# Altium schematic symbol library hello.SchLib: 90 symbols
Pins are listed as number, name and electrical type; pins without a type are passive.

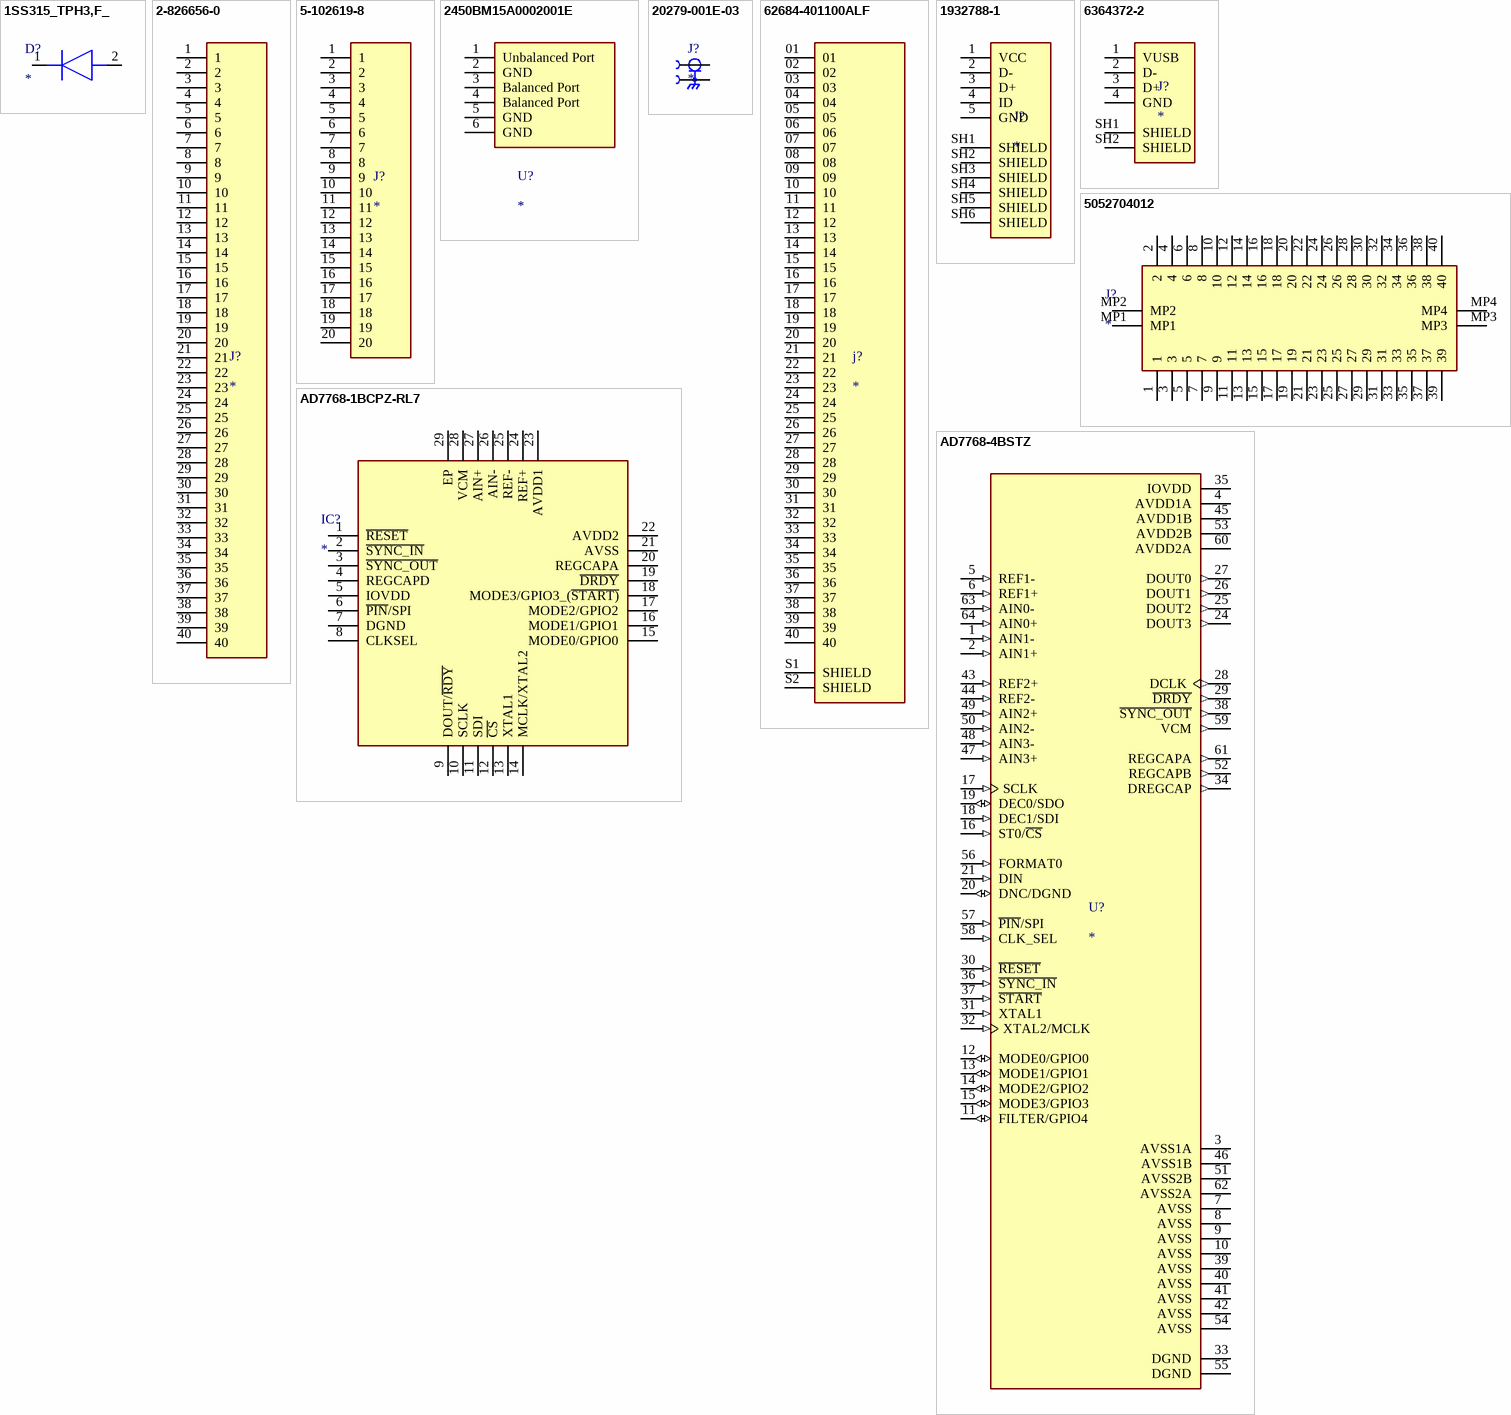
[diagram p0: symbols 1SS315_TPH3,F_ to AD7768-4BSTZ]

## 1SS315_TPH3,F_
designator D?
Diode; Manufacturer_Name: Toshiba; Manufacturer_Part_Number: 1SS315(TPH3,F); Height: 1.1mm; Mouser Part Number: N/A; Mouser Price/Stock: https://www.mouser.co.uk/ProductDetail/Toshiba/1SS315TPH3F?qs=8TQFHmocP6xxNvZUFM2DpA%3D%3D
footprint SOD2513X110N
pins: 1 K, 2 A

## 2-826656-0
designator J?
40 pin
footprint TE_2-826656-0
pins: 1, 2, 3, 4, 5, 6, 7, 8, 9, 10, 11, 12, 13, 14, 15, 16, 17, 18, 19, 20, 21, 22, 23, 24, 25, 26, 27, 28, 29, 30, 31, 32, 33, 34, 35, 36, 37, 38, 39, 40

## 5-102619-8
designator J?
JTAG. Conn Shrouded Header HDR 20 POS 2.54mm Solder ST Thru-Hole Tray
footprint TE_5-102619-8 (Footprint not found)
pins: 1, 2, 3, 4, 5, 6, 7, 8, 9, 10, 11, 12, 13, 14, 15, 16, 17, 18, 19, 20

## 2450BM15A0002001E
designator U?
bộ lọc thông dải. 2.4GHz
footprint 2450BM15A0002001E (Footprint not found)
pins: 1 Unbalanced Port, 2 GND, 3 Balanced Port, 4 Balanced Port, 5 GND, 6 GND

## 20279-001E-03
designator J?
1 POS Vertical SMD Small form factor with big performance through 6 GHz connector,MHF, RF, micro-coaxial MHF I Receptacle
footprint IPEX_20279-001E-03
pins: 1 SIGNAL, 2 GROUND, 3 GROUND

## 62684-401100ALF
designator j?
FFC. 40 pin
footprint AMPHENOL_62684-401100ALF
pins: 01, 02, 03, 04, 05, 06, 07, 08, 09, 10, 11, 12, 13, 14, 15, 16, 17, 18, 19, 20, 21, 22, 23, 24, 25, 26, 27, 28, 29, 30, 31, 32, 33, 34, 35, 36, 37, 38, 39, 40, S1 SHIELD, S2 SHIELD

## 1932788-1
designator J?
micro usb type B
footprint TE_1932788-1
pins: 1 VCC (power), 2 D-, 3 D+, 4 ID, 5 GND (power), SH1 SHIELD, SH2 SHIELD, SH3 SHIELD, SH4 SHIELD, SH5 SHIELD, SH6 SHIELD

## 6364372-2
designator J?
usb type A
footprint TE_6364372-2
pins: 1 VUSB, 2 D-, 3 D+, 4 GND, SH1 SHIELD, SH2 SHIELD

## 5052704012
designator J?
Connector; Manufacturer_Name: Molex; Manufacturer_Part_Number: 5052704012; Datasheet Link: https://tools.molex.com/pdm_docs/sd/5052704012_sd.pdf; Height: 0.78mm
footprint 5052704012
pins: 1, 2, 3, 4, 5, 6, 7, 8, 9, 10, 11, 12, 13, 14, 15, 16, 17, 18, 19, 20, 21, 22, 23, 24, 25, 26, 27, 28, 29, 30, 31, 32, 33, 34, 35, 36, 37, 38, 39, 40, MP1, MP2, MP3, MP4

## AD7768-1BCPZ-RL7
designator IC?
Integrated Circuit; Manufacturer_Name: Analog Devices; Manufacturer_Part_Number: AD7768-1BCPZ-RL7; Datasheet Link: https://www.arrow.com/en/products/ad7768-1bcpz-rl7/analog-devices; Height: 0.8mm; Mouser Part Number: 584-AD7768-1BCPZ-RL7; Mouser Price/Stock: https://www.mouser.co.uk/ProductDetail/Analog-Devices/AD7768-1BCPZ-RL7?qs=MLItCLRbWszUL30HMHEoKA%3D%3D; Arrow Part Number: AD7768-1BCPZ-RL7; Arrow Price/Stock: https://www.arrow.com/en/products/ad7768-1bcpz-rl7/analog-devices?utm_currency=USD&region=nac
footprint QFN50P400X500X80-29N-D
pins: 1 ~{RESET}, 2 ~{SYNC_IN}, 3 ~{SYNC_OUT}, 4 REGCAPD, 5 IOVDD, 6 ~{PIN}/SPI, 7 DGND, 8 CLKSEL, 9 DOUT/~{RDY}, 10 SCLK, 11 SDI, 12 ~{CS}, 13 XTAL1, 14 MCLK/XTAL2, 15 MODE0/GPIO0, 16 MODE1/GPIO1, 17 MODE2/GPIO2, 18 MODE3/GPIO3_(~{START)}, 19 ~{DRDY}, 20 REGCAPA, 21 AVSS, 22 AVDD2, 23 AVDD1, 24 REF+, 25 REF-, 26 AIN-, 27 AIN+, 28 VCM, 29 EP

## AD7768-4BSTZ
designator U?
4-Channel, 24-Bit, Simultaneous Sampling ADC, Power Scaling, 110.8 kHz BW
footprint QFP50P1200X1200X160-64N
pins: 1 AIN1- (in), 2 AIN1+ (in), 3 AVSS1A (power), 4 AVDD1A (power), 5 REF1- (in), 6 REF1+ (in), 7 AVSS (power), 8 AVSS (power), 9 AVSS (power), 10 AVSS (power), 11 FILTER/GPIO4 (io), 12 MODE0/GPIO0 (io), 13 MODE1/GPIO1 (io), 14 MODE2/GPIO2 (io), 15 MODE3/GPIO3 (io), 16 ST0/~{CS} (in), 17 SCLK (in), 18 DEC1/SDI (in), 19 DEC0/SDO (io), 20 DNC/DGND (io), 21 DIN (in), 24 DOUT3 (out), 25 DOUT2 (out), 26 DOUT1 (out), 27 DOUT0 (out), 28 DCLK (out), 29 ~{DRDY} (out), 30 ~{RESET} (in), 31 XTAL1 (in), 32 XTAL2/MCLK (in), 33 DGND (power), 34 DREGCAP (out), 35 IOVDD (power), 36 ~{SYNC_IN} (in), 37 ~{START} (in), 38 ~{SYNC_OUT} (out), 39 AVSS (power), 40 AVSS (power), 41 AVSS (power), 42 AVSS (power), 43 REF2+ (in), 44 REF2- (in), 45 AVDD1B (power), 46 AVSS1B (power), 47 AIN3+ (in), 48 AIN3- (in), 49 AIN2+ (in), 50 AIN2- (in), 51 AVSS2B (power), 52 REGCAPB (out), 53 AVDD2B (power), 54 AVSS (power), 55 DGND (power), 56 FORMAT0 (in), 57 ~{PIN}/SPI (in), 58 CLK_SEL (in), 59 VCM (out), 60 AVDD2A (power), 61 REGCAPA (out), 62 AVSS2A (power), 63 AIN0- (in), 64 AIN0+ (in)

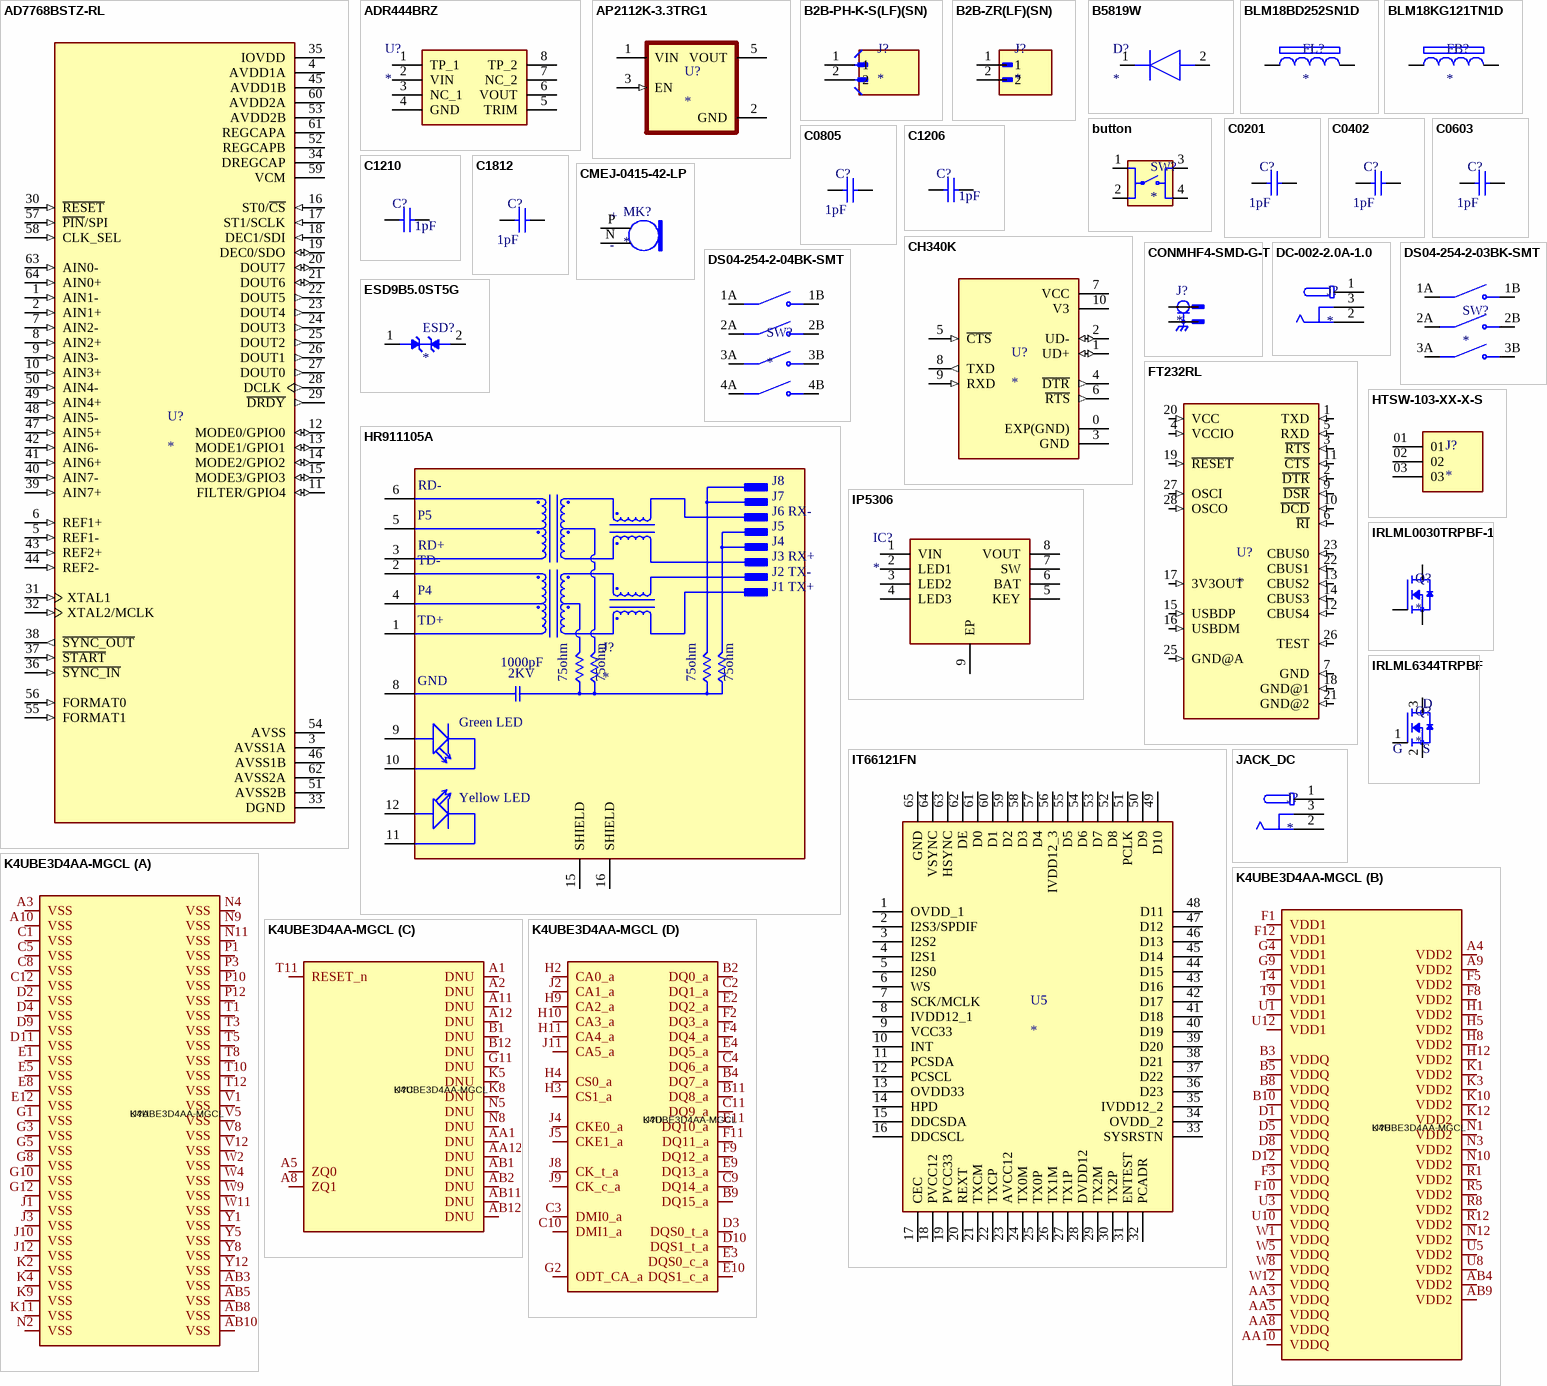
[diagram p1: symbols AD7768BSTZ-RL to K4UBE3D4AA-MGCL]

## AD7768BSTZ-RL
designator U?
ADC 24 bit. 8 kênh. SPI
footprint QFP50P1200X1200X160-64N (Footprint not found)
pins: 1 AIN1- (in), 2 AIN1+ (in), 3 AVSS1A (power), 4 AVDD1A (power), 5 REF1- (in), 6 REF1+ (in), 7 AIN2- (in), 8 AIN2+ (in), 9 AIN3- (in), 10 AIN3+ (in), 11 FILTER/GPIO4 (io), 12 MODE0/GPIO0 (io), 13 MODE1/GPIO1 (io), 14 MODE2/GPIO2 (io), 15 MODE3/GPIO3 (io), 16 ST0/~{CS} (in), 17 ST1/SCLK (in), 18 DEC1/SDI (in), 19 DEC0/SDO (io), 20 DOUT7 (io), 21 DOUT6 (io), 22 DOUT5 (out), 23 DOUT4 (out), 24 DOUT3 (out), 25 DOUT2 (out), 26 DOUT1 (out), 27 DOUT0 (out), 28 DCLK (out), 29 ~{DRDY} (out), 30 ~{RESET} (in), 31 XTAL1 (in), 32 XTAL2/MCLK (in), 33 DGND (power), 34 DREGCAP (power), 35 IOVDD (power), 36 ~{SYNC_IN} (in), 37 ~{START} (in), 38 ~{SYNC_OUT} (out), 39 AIN7+ (in), 40 AIN7- (in), 41 AIN6+ (in), 42 AIN6- (in), 43 REF2+ (in), 44 REF2- (in), 45 AVDD1B (power), 46 AVSS1B (power), 47 AIN5+ (in), 48 AIN5- (in), 49 AIN4+ (in), 50 AIN4- (in), 51 AVSS2B (power), 52 REGCAPB (power), 53 AVDD2B (power), 54 AVSS (power), 55 FORMAT1 (in), 56 FORMAT0 (in), 57 ~{PIN}/SPI (in), 58 CLK_SEL (in), 59 VCM (power), 60 AVDD2A (power), 61 REGCAPA (power), 62 AVSS2A (power), 63 AIN0- (in), 64 AIN0+ (in)

## ADR444BRZ
designator U?
Integrated Circuit; Manufacturer_Name: Analog Devices; Manufacturer_Part_Number: ADR444BRZ; Datasheet Link: https://datasheet.datasheetarchive.com/originals/distributors/SFDatasheet-4/sf-00085539.pdf; Height: 1.75mm; Mouser Part Number: 584-ADR444BRZ; Mouser Price/Stock: https://www.mouser.co.uk/ProductDetail/Analog-Devices/ADR444BRZ?qs=WIvQP4zGaniGi1GotCNCxA%3D%3D; Arrow Part Number: ADR444BRZ; Arrow Price/Stock: https://www.arrow.com/en/products/adr444brz/analog-devices?region=europe
footprint SOIC127P600X175-8N
pins: 1 TP_1, 2 VIN, 3 NC_1, 4 GND, 5 TRIM, 6 VOUT, 7 NC_2, 8 TP_2

## AP2112K-3.3TRG1
designator U?
Linear Voltage Regulator IC Positive Fixed 1 Output 600mA SOT-25
footprint SOT95P285X140-5N (Footprint not found)
pins: 1 VIN (power), 2 GND (power), 3 EN (in), 5 VOUT (power)

## B2B-PH-K-S(LF)(SN)
designator J?
Connector. 2p 2.00mm
footprint JST_B2B-PH-K-S(LF)(SN) (Footprint not found)
pins: 1, 2

## B2B-ZR(LF)(SN)
designator J?
Connector. 2p 1.50mm
footprint JST_B2B-ZR(LF)(SN) (Footprint not found)
pins: 1, 2

## B5819W
designator D?
Diode; Manufacturer_Name: Changjiang Electronics Tech (CJ); Manufacturer_Part_Number: B5819W; Datasheet Link: https://datasheet.lcsc.com/szlcsc/Changjiang-Electronics-Tech-CJ-B5819W_C8598.pdf; Height: 1.25mm
footprint SOD3716X125N
pins: 1 K, 2 A

## BLM18BD252SN1D
designator FL?
Inductor Chip Bead 2.5KOhm 25% 100MHz Ferrite 50mA 0603
footprint BEADC1608X95N (Footprint not found)
pins: 1, 2

## BLM18KG121TN1D
designator FB?
Ferrite Bead. 0603. 3A.  DC Resistance(DCR) 30mΩ. 120Ω@100MHz; Manufacturer_Name: Murata Electronics; Manufacturer_Part_Number: BLM18KG121TN1D; Datasheet Link: http://www.murata.com/~/media/webrenewal/support/library/catalog/products/emc/emifil/c31e.ashx?la=en-gb; Height: 0.75mm; Mouser Part Number: 81-BLM18KG121TN1D; Mouser Price/Stock: https://www.mouser.co.uk/ProductDetail/Murata-Electronics/BLM18KG121TN1D?qs=rvfpa0%252BU10PYAwVv0fw24Q%3D%3D; Arrow Part Number: BLM18KG121TN1D; Arrow Price/Stock: https://www.arrow.com/en/products/blm18kg121tn1d/murata-manufacturing?utm_currency=USD&region=nac
footprint BLM18EG101TH1D
pins: 1, 2

## button
designator SW?
6x6 mm
footprint BUTTON (Footprint not found)
pins: 1, 2, 3, 4

## C0201
designator C?  value 1pF  (hidden comment: C0201)
footprint C0201
pins: 1, 2

## C0402
designator C?  value 1pF  (hidden comment: C0402)
footprint C0402
pins: 1, 2

## C0603
designator C?  value 1pF  (hidden comment: C0603)
footprint C0603
pins: 1, 2

## C0805
designator C?  value 1pF  (hidden comment: C0805)
footprint C0805
pins: 1, 2

## C1206
designator C?  value 1pF  (hidden comment: C1206)
footprint C1206
pins: 1, 2

## C1210
designator C?  value 1pF  (hidden comment: C1210)
footprint C1210
pins: 1, 2

## C1812
designator C?  value 1pF  (hidden comment: C1812)
footprint C1812
pins: 1, 2

## CH340K
designator U?
UART USB
footprint SOP100P600X160-11N
pins: 0 EXP(GND) (power), 1 UD+ (io), 2 UD- (io), 3 GND (power), 4 ~{DTR} (out), 5 ~{CTS} (in), 6 ~{RTS} (out), 7 VCC (power), 8 TXD (out), 9 RXD (in), 10 V3 (power)

## CMEJ-0415-42-LP
designator MK?
4.0 mm, Omnidirectional, PCB Mount, 2.0 Vdc, Elecret Condenser Microphone
footprint MIC_CMEJ-0415-42-LP (Footprint not found)
pins: N GND, P OUTPUT
text: +; -

## CONMHF4-SMD-G-T
designator J?
MHF4 Jack 50 Ohm PCB Surface Mount
footprint LINX_CONMHF4-SMD-G-T
pins: 1, S1 2, S2 2, S3 2

## DC-002-2.0A-1.0
designator J?
Connect power; Manufacturer_Name: XKB Connectivity; Manufacturer_Part_Number: DC-002-2.0A-1.0; Datasheet Link: http://www.helloxkb.com/public/images/pdf/DC-002-2.0A-1.0.pdf; Height: 7.6mm
footprint DC00220A10
pins: 1, 2, 3

## DS04-254-2-03BK-SMT
designator SW?
Switch. 3 Position, Surface Mount, 2.54 mm Pitch, Flat Slide Actuator, Flat Bottom, SMT Pin, DIP Switch
footprint SW_DS04-254-2-03BK-SMT (Footprint not found)
pins: 1A COM1, 1B NO1, 2A COM2, 2B NO2, 3A COM3, 3B NO3

## DS04-254-2-04BK-SMT
designator SW?
Switch. 4 Position, Surface Mount, 2.54 mm Pitch, Flat Slide Actuator, Flat Bottom, SMT Pin, DIP Switch
footprint SW_DS04-254-2-04BK-SMT (Footprint not found)
pins: 1A COM1, 1B NO1, 2A COM2, 2B NO2, 3A COM3, 3B NO3, 4A COM4, 4B NO4

## ESD9B5.0ST5G
designator ESD?
Clamp Ipp Tvs Diode Surface Mount SOD-923
footprint SODFL1006X40N
pins: 1 A, 2 A1

## FT232RL
designator U?
USB to UART
footprint FT232RL
pins: 1 TXD (in), 2 ~{DTR} (in), 3 ~{RTS} (in), 4 VCCIO (in), 5 RXD (in), 6 ~{RI} (in), 7 GND (in), 9 ~{DSR} (in), 10 ~{DCD} (in), 11 ~{CTS} (in), 12 CBUS4 (in), 13 CBUS2 (in), 14 CBUS3 (in), 15 USBDP (in), 16 USBDM (in), 17 3V3OUT (in), 18 GND@1 (in), 19 ~{RESET} (in), 20 VCC (in), 21 GND@2 (in), 22 CBUS1 (in), 23 CBUS0 (in), 25 GND@A (in), 26 TEST (in), 27 OSCI (in), 28 OSCO (in)

## HR911105A
designator J?
RJ45 có biến áp
footprint HANRUN_HR911105A
pins: 1 TD+, 2 TD-, 3 RD+, 4 P4, 5 P5, 6 RD-, 8 GND (power), 9 GA, 10 GC, 11 YC, 12 YA, 15 SHIELD, 16 SHIELD
text: J8; J7; J6 RX-; J5; J4; J3 RX+; J2 TX-; J1 TX+; 1000pF; 2KV; 75ohm; Green LED; Yellow LED

## HTSW-103-XX-X-S
designator J?
3 chân
footprint SAMTEC_HTSW-103-XX-X-S (Footprint not found)
pins: 01, 02, 03

## IP5306
designator IC?
Integrated Circuit; Manufacturer_Name: INJOINIC; Manufacturer_Part_Number: IP5306; Datasheet Link: https://datasheetspdf.com/pdf-file/1139129/Injoinic/IP5306/1; Height: 1.65mm
footprint SOIC127P600X165-9N
pins: 1 VIN, 2 LED1, 3 LED2, 4 LED3, 5 KEY, 6 BAT, 7 SW, 8 VOUT, 9 EP

## IRLML0030TRPBF-1
designator Q?
Mosfet, 30v, 5.2a, 28 Mohm, 3.6 Nc Qg, Sot-23
footprint SOT95P237X112-3N (Footprint not found)
pins: 1 G, 2 S, 3 D

## IRLML6344TRPBF
designator Q?
IRLML6344TRPBF N-channel MOSFET Transistor, 5 A, 30 V, 3-Pin SOT-23 | Infineon IRLML6344TRPBF
footprint SOT95P240X112-3N
pins: 1 G, 2 S, 3 D

## IT66121FN
designator U5
HDMI; Manufacturer_Name: ITE; Manufacturer_Part_Number: IT66121FN; Datasheet Link: https://datasheetspdf.com/pdf-file/808171/ITETECH/IT66121FN/1; Height: 1mm
footprint QFN50P900X900X100-65N-D
pins: 1 OVDD_1, 2 I2S3/SPDIF, 3 I2S2, 4 I2S1, 5 I2S0, 6 WS, 7 SCK/MCLK, 8 IVDD12_1, 9 VCC33, 10 INT, 11 PCSDA, 12 PCSCL, 13 OVDD33, 14 HPD, 15 DDCSDA, 16 DDCSCL, 17 CEC, 18 PVCC12, 19 PVCC33, 20 REXT, 21 TXCM, 22 TXCP, 23 AVCC12, 24 TX0M, 25 TX0P, 26 TX1M, 27 TX1P, 28 DVDD12, 29 TX2M, 30 TX2P, 31 ENTEST, 32 PCADR, 33 SYSRSTN, 34 OVDD_2, 35 IVDD12_2, 36 D23, 37 D22, 38 D21, 39 D20, 40 D19, 41 D18, 42 D17, 43 D16, 44 D15, 45 D14, 46 D13, 47 D12, 48 D11, 49 D10, 50 D9, 51 PCLK, 52 D8, 53 D7, 54 D6, 55 D5, 56 IVDD12_3, 57 D4, 58 D3, 59 D2, 60 D1, 61 D0, 62 DE, 63 HSYNC, 64 VSYNC, 65 GND

## JACK_DC
designator J?
Connect power
footprint JACK_DC
pins: 1, 2, 3

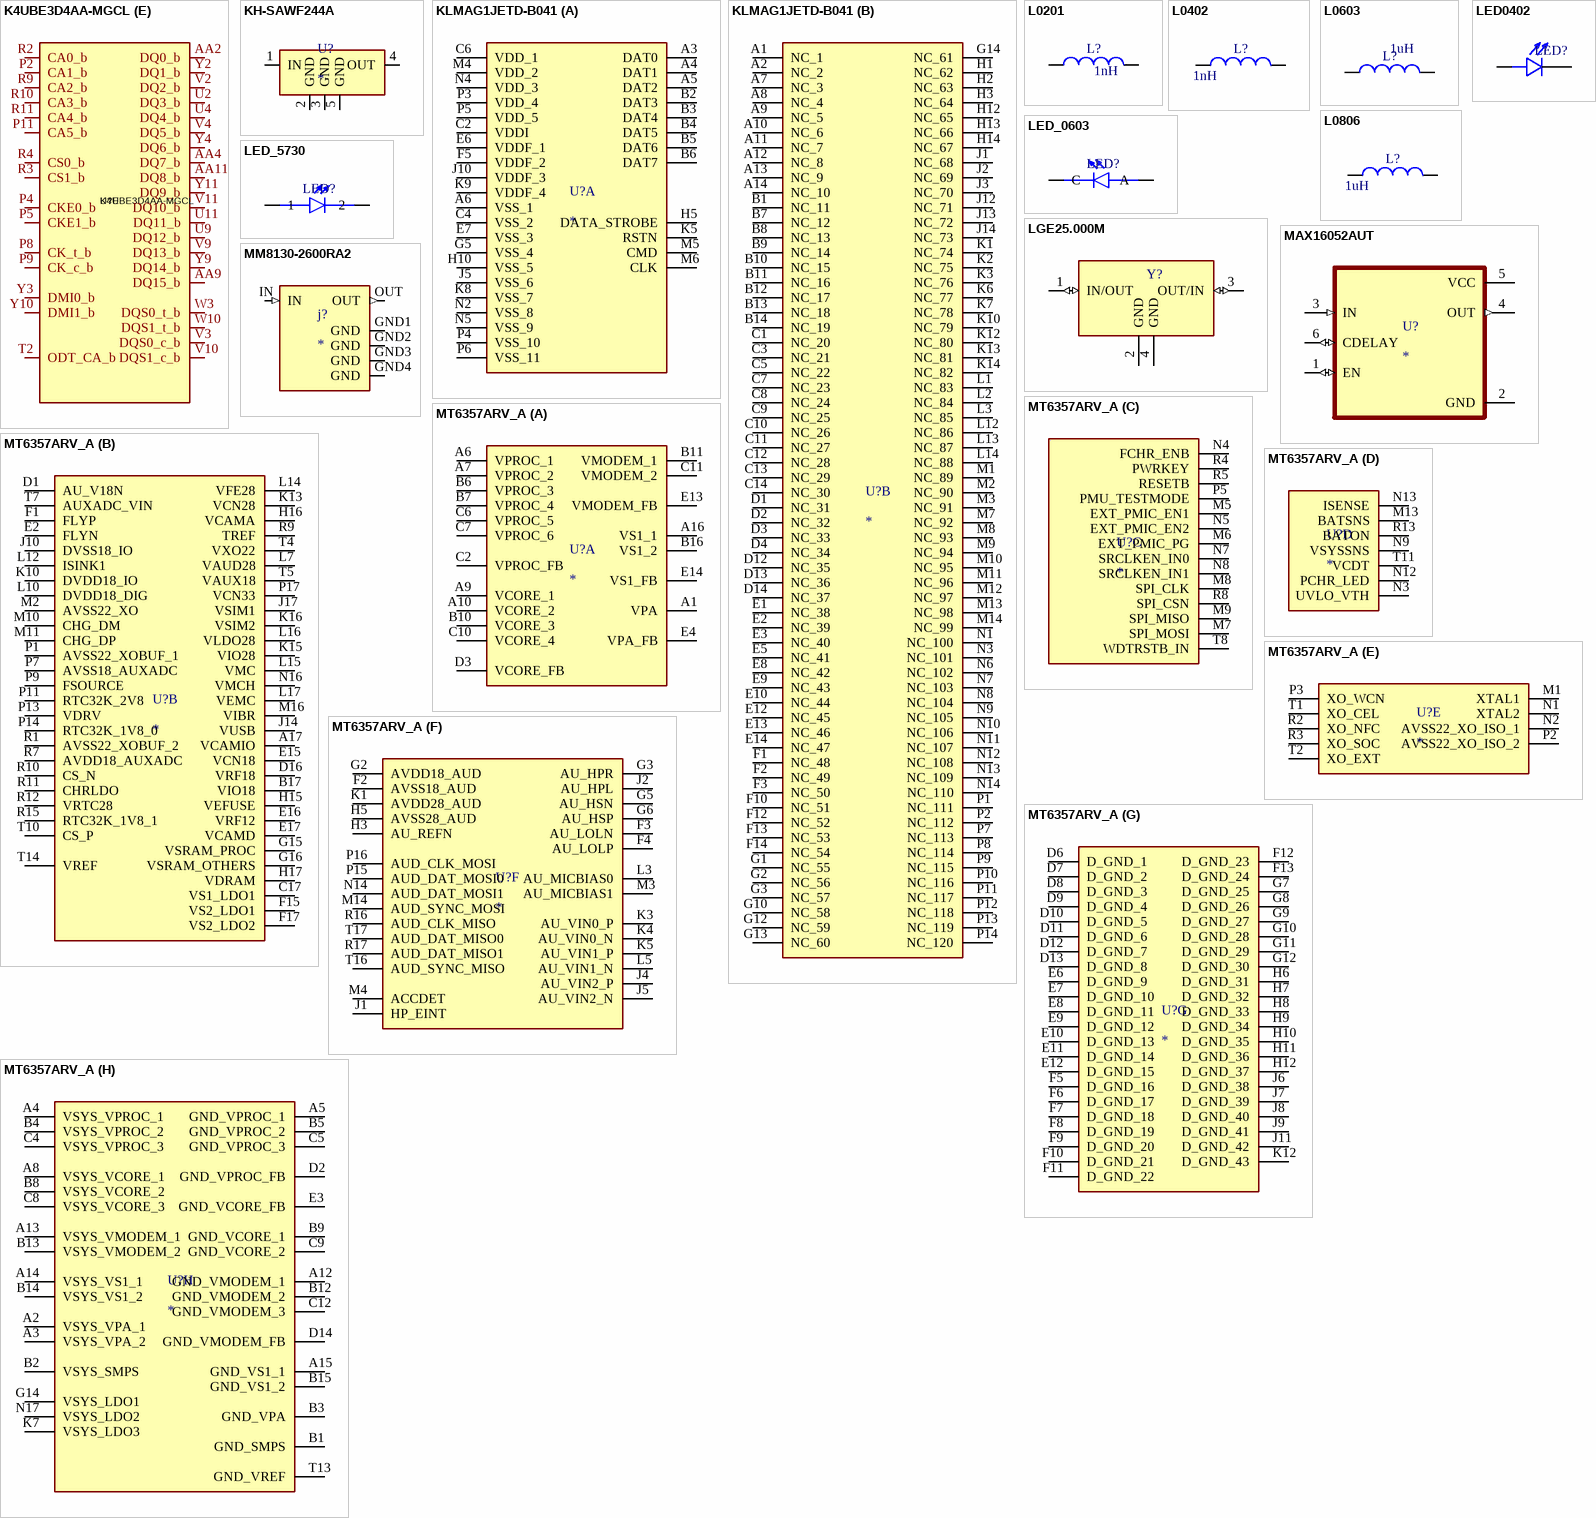
[diagram p2: symbols K4UBE3D4AA-MGCL to MT6357ARV_A]

## K4UBE3D4AA-MGCL
designator U?
RAM; Manufacturer: SAMSUNG(三星半导体); Add into BOM: yes; Memory Format: SDRAM LPDDR4X; Clock Frequency (fc): 2133MHz; Memory Size: 32Gbit; Supply Voltage: 1.7V~1.95V; Symbol: K4UBE3D4AA-MGCL; Device: K4UBE3D4AA-MGCL; LCSC Part Name: K4UBE3D4AA-MGCL 停产; Supplier Part: C2920257; Manufacturer Part: K4UBE3D4AA-MGCL; Supplier Footprint: FBGA-200; JLCPCB Part Class: Extended Part; Datasheet: https://atta.szlcsc.com/upload/public/pdf/source/20231024/5530CB18C2033A14DEC9B3A35E728586.pdf; Supplier: LCSC; Convert to PCB: yes; Supply current: -; Refresh Current: -; Operating Temperature: -25℃~+85℃
footprint K4F8E304HB-MGCJ
part A pins: A3 VSS, A10 VSS, AB3 VSS, AB5 VSS, AB8 VSS, AB10 VSS, C1 VSS, C5 VSS, C8 VSS, C12 VSS, D2 VSS, D4 VSS, D9 VSS, D11 VSS, E1 VSS, E5 VSS, E8 VSS, E12 VSS, G1 VSS, G3 VSS, G5 VSS, G8 VSS, G10 VSS, G12 VSS, J1 VSS, J3 VSS, J10 VSS, J12 VSS, K2 VSS, K4 VSS, K9 VSS, K11 VSS, N2 VSS, N4 VSS, N9 VSS, N11 VSS, P1 VSS, P3 VSS, P10 VSS, P12 VSS, T1 VSS, T3 VSS, T5 VSS, T8 VSS, T10 VSS, T12 VSS, V1 VSS, V5 VSS, V8 VSS, V12 VSS, W2 VSS, W4 VSS, W9 VSS, W11 VSS, Y1 VSS, Y5 VSS, Y8 VSS, Y12 VSS
part B pins: A4 VDD2, A9 VDD2, AA3 VDDQ, AA5 VDDQ, AA8 VDDQ, AA10 VDDQ, AB4 VDD2, AB9 VDD2, B3 VDDQ, B5 VDDQ, B8 VDDQ, B10 VDDQ, D1 VDDQ, D5 VDDQ, D8 VDDQ, D12 VDDQ, F1 VDD1, F3 VDDQ, F5 VDD2, F8 VDD2, F10 VDDQ, F12 VDD1, G4 VDD1, G9 VDD1, H1 VDD2, H5 VDD2, H8 VDD2, H12 VDD2, K1 VDD2, K3 VDD2, K10 VDD2, K12 VDD2, N1 VDD2, N3 VDD2, N10 VDD2, N12 VDD2, R1 VDD2, R5 VDD2, R8 VDD2, R12 VDD2, T4 VDD1, T9 VDD1, U1 VDD1, U3 VDDQ, U5 VDD2, U8 VDD2, U10 VDDQ, U12 VDD1, W1 VDDQ, W5 VDDQ, W8 VDDQ, W12 VDDQ
part C pins: A1 DNU, A2 DNU, A5 ZQ0, A8 ZQ1, A11 DNU, A12 DNU, AA1 DNU, AA12 DNU, AB1 DNU, AB2 DNU, AB11 DNU, AB12 DNU, B1 DNU, B12 DNU, G11 DNU, K5 DNU, K8 DNU, N5 DNU, N8 DNU, T11 RESET_n
part D pins: B2 DQ0_a, B4 DQ7_a, B9 DQ15_a, B11 DQ8_a, C2 DQ1_a, C3 DMI0_a, C4 DQ6_a, C9 DQ14_a, C10 DMI1_a, C11 DQ9_a, D3 DQS0_t_a, D10 DQS1_t_a, E2 DQ2_a, E3 DQS0_c_a, E4 DQ5_a, E9 DQ13_a, E10 DQS1_c_a, E11 DQ10_a, F2 DQ3_a, F4 DQ4_a, F9 DQ12_a, F11 DQ11_a, G2 ODT_CA_a, H2 CA0_a, H3 CS1_a, H4 CS0_a, H9 CA2_a, H10 CA3_a, H11 CA4_a, J2 CA1_a, J4 CKE0_a, J5 CKE1_a, J8 CK_t_a, J9 CK_c_a, J11 CA5_a
part E pins: AA2 DQ0_b, AA4 DQ7_b, AA9 DQ15_b, AA11 DQ8_b, P2 CA1_b, P4 CKE0_b, P5 CKE1_b, P8 CK_t_b, P9 CK_c_b, P11 CA5_b, R2 CA0_b, R3 CS1_b, R4 CS0_b, R9 CA2_b, R10 CA3_b, R11 CA4_b, T2 ODT_CA_b, U2 DQ3_b, U4 DQ4_b, U9 DQ12_b, U11 DQ11_b, V2 DQ2_b, V3 DQS0_c_b, V4 DQ5_b, V9 DQ13_b, V10 DQS1_c_b, V11 DQ10_b, W3 DQS0_t_b, W10 DQS1_t_b, Y2 DQ1_b, Y3 DMI0_b, Y4 DQ6_b, Y9 DQ14_b, Y10 DMI1_b, Y11 DQ9_b

## KH-SAWF244A
designator U?
bộ lọc thông dải 2.4GHz
footprint KH-SAWF244A (Footprint not found)
pins: 1 IN (power), 2 GND (power), 3 GND (power), 4 OUT (power), 5 GND (power)

## KLMAG1JETD-B041
designator U?
ROM; Manufacturer_Name: SAMSUNG; Manufacturer_Part_Number: KLMAG1JETD-B041; Datasheet Link: https://datasheet.lcsc.com/lcsc/2007011825_Samsung-KLMAG1JETD-B041_C499919.pdf; Height: 0.8mm
footprint BGA153C50P14X14_1150X1300X80
part A pins: A3 DAT0, A4 DAT1, A5 DAT2, A6 VSS_1, B2 DAT3, B3 DAT4, B4 DAT5, B5 DAT6, B6 DAT7, C2 VDDI, C4 VSS_2, C6 VDD_1, E6 VDDF_1, E7 VSS_3, F5 VDDF_2, G5 VSS_4, H5 DATA_STROBE, H10 VSS_5, J5 VSS_6, J10 VDDF_3, K5 RSTN, K8 VSS_7, K9 VDDF_4, M4 VDD_2, M5 CMD, M6 CLK, N2 VSS_8, N4 VDD_3, N5 VSS_9, P3 VDD_4, P4 VSS_10, P5 VDD_5, P6 VSS_11
part B pins: A1 NC_1, A2 NC_2, A7 NC_3, A8 NC_4, A9 NC_5, A10 NC_6, A11 NC_7, A12 NC_8, A13 NC_9, A14 NC_10, B1 NC_11, B7 NC_12, B8 NC_13, B9 NC_14, B10 NC_15, B11 NC_16, B12 NC_17, B13 NC_18, B14 NC_19, C1 NC_20, C3 NC_21, C5 NC_22, C7 NC_23, C8 NC_24, C9 NC_25, C10 NC_26, C11 NC_27, C12 NC_28, C13 NC_29, C14 NC_30, D1 NC_31, D2 NC_32, D3 NC_33, D4 NC_34, D12 NC_35, D13 NC_36, D14 NC_37, E1 NC_38, E2 NC_39, E3 NC_40, E5 NC_41, E8 NC_42, E9 NC_43, E10 NC_44, E12 NC_45, E13 NC_46, E14 NC_47, F1 NC_48, F2 NC_49, F3 NC_50, F10 NC_51, F12 NC_52, F13 NC_53, F14 NC_54, G1 NC_55, G2 NC_56, G3 NC_57, G10 NC_58, G12 NC_59, G13 NC_60, G14 NC_61, H1 NC_62, H2 NC_63, H3 NC_64, H12 NC_65, H13 NC_66, H14 NC_67, J1 NC_68, J2 NC_69, J3 NC_70, J12 NC_71, J13 NC_72, J14 NC_73, K1 NC_74, K2 NC_75, K3 NC_76, K6 NC_77, K7 NC_78, K10 NC_79, K12 NC_80, K13 NC_81, K14 NC_82, L1 NC_83, L2 NC_84, L3 NC_85, L12 NC_86, L13 NC_87, L14 NC_88, M1 NC_89, M2 NC_90, M3 NC_91, M7 NC_92, M8 NC_93, M9 NC_94, M10 NC_95, M11 NC_96, M12 NC_97, M13 NC_98, M14 NC_99, N1 NC_100, N3 NC_101, N6 NC_102, N7 NC_103, N8 NC_104, N9 NC_105, N10 NC_106, N11 NC_107, N12 NC_108, N13 NC_109, N14 NC_110, P1 NC_111, P2 NC_112, P7 NC_113, P8 NC_114, P9 NC_115, P10 NC_116, P11 NC_117, P12 NC_118, P13 NC_119, P14 NC_120

## L0201
designator L?  value 1nH  (hidden comment: L0201)
footprint L0201
pins: 1, 2

## L0402
designator L?  value 1nH  (hidden comment: L0402)
footprint L0402
pins: 1, 2

## L0603
designator L?  value 1uH  (hidden comment: L0603)
footprint L0603
pins: 1, 2

## L0806
designator L?  value 1uH  (hidden comment: *)
Inductor / SMD:1.6x2mm
footprint L0806 (SMD:1.6x2mm)
pins: 1, 2

## LED0402
designator LED?  (value not drawn)
LED SMD
footprint LED0402
pins: A, C

## LED_0603
designator LED?  (value not drawn)
LED SMD
footprint LED_0603 (Footprint not found)
pins: A, C

## LED_5730
designator LED?  (value not drawn)
LED SMD; Manufacturer_Name: Bivar; Manufacturer_Part_Number: SM5730UWDC05; Datasheet Link: https://ja-bots.com/wp-content/uploads/2023/01/SM5730UWDC05-BIVAR.pdf?srsltid=AfmBOoovMyML2SIj8QvW33aYphKHuiK9c7G9KYdJdHNR0r_sEcANN2ud; Height: 1.154mm; Mouser Part Number: 749-SM5730UWDC05; Mouser Price/Stock: https://www.mouser.co.uk/ProductDetail/Bivar/SM5730UWDC05?qs=R6DaRWE8nmu0EcNcbYsDPw%3D%3D; Arrow Part Number: SM5730UWDC05; Arrow Price/Stock: https://www.arrow.com/en/products/sm5730uwdc05/bivar?region=nac
footprint SM5730UWDC05
pins: 1, 2

## LGE25.000M
designator Y?  (value not drawn)
Crystals 25.0000MHZ 12pF SMD 30Ω
footprint XTAL_ECS-250-6-33B2-CTN-TR3
pins: 1 IN/OUT (io), 2 GND (power), 3 OUT/IN (io), 4 GND (power)

## MAX16052AUT
designator U?
High-Voltage, Adjustable Sequencing/Supervisory Circuitss
footprint SOT95P280X145-6N
pins: 1 EN (io), 2 GND (power), 3 IN (in), 4 OUT (out), 5 VCC (power), 6 CDELAY (io)

## MM8130-2600RA2
designator j?
footprint MURATA_MM8130-2600RA2 (Footprint not found)
pins: GND1 GND (power), GND2 GND (power), GND3 GND (power), GND4 GND (power), IN (in), OUT (out)

## MT6357ARV_A
designator U?
PMIC; Manufacturer_Name: Mediatek; Manufacturer_Part_Number: MT6357ARV/A; Datasheet Link: https://mediatek-marketing.files.svdcdn.com/production/documents/Genio-PMICs/MTK_MT6357_Product-Brief_v1.0.pdf?dm=1696608680; Height: 1mm; Mouser Part Number: 840-MT6357ARV/A; Mouser Price/Stock: https://www.mouser.co.uk/ProductDetail/MediaTek/MT6357ARV-A?qs=Jm2GQyTW%2Fbim3iWdQ0ZJPw%3D%3D
footprint BGA209C40P17X16_700X660X100
part A pins: A1 VPA, A6 VPROC_1, A7 VPROC_2, A9 VCORE_1, A10 VCORE_2, A16 VS1_1, B6 VPROC_3, B7 VPROC_4, B10 VCORE_3, B11 VMODEM_1, B16 VS1_2, C2 VPROC_FB, C6 VPROC_5, C7 VPROC_6, C10 VCORE_4, C11 VMODEM_2, D3 VCORE_FB, E4 VPA_FB, E13 VMODEM_FB, E14 VS1_FB
part B pins: A17 VCAMIO, B17 VIO18, C17 VS1_LDO1, D1 AU_V18N, D16 VRF18, E2 FLYN, E15 VCN18, E16 VRF12, E17 VCAMD, F1 FLYP, F15 VS2_LDO1, F17 VS2_LDO2, G15 VSRAM_PROC, G16 VSRAM_OTHERS, H15 VEFUSE, H16 VCAMA, H17 VDRAM, J10 DVSS18_IO, J14 VUSB, J17 VSIM1, K10 DVDD18_IO, K13 VCN28, K15 VIO28, K16 VSIM2, L7 VAUD28, L10 DVDD18_DIG, L12 ISINK1, L14 VFE28, L15 VMC, L16 VLDO28, L17 VEMC, M2 AVSS22_XO, M10 CHG_DM, M11 CHG_DP, M16 VIBR, N16 VMCH, P1 AVSS22_XOBUF_1, P7 AVSS18_AUXADC, P9 FSOURCE, P11 RTC32K_2V8, P13 VDRV, P14 RTC32K_1V8_0, P17 VCN33, R1 AVSS22_XOBUF_2, R7 AVDD18_AUXADC, R9 TREF, R10 CS_N, R11 CHRLDO, R12 VRTC28, R15 RTC32K_1V8_1, T4 VXO22, T5 VAUX18, T7 AUXADC_VIN, T10 CS_P, T14 VREF
part C pins: M5 EXT_PMIC_EN1, M6 EXT_PMIC_PG, M7 SPI_MOSI, M8 SPI_CLK, M9 SPI_MISO, N4 FCHR_ENB, N5 EXT_PMIC_EN2, N7 SRCLKEN_IN0, N8 SRCLKEN_IN1, P5 PMU_TESTMODE, R4 PWRKEY, R5 RESETB, R8 SPI_CSN, T8 WDTRSTB_IN
part D pins: M13 BATSNS, N3 UVLO_VTH, N9 VSYSSNS, N12 PCHR_LED, N13 ISENSE, R13 BATON, T11 VCDT
part E pins: M1 XTAL1, N1 XTAL2, N2 AVSS22_XO_ISO_1, P2 AVSS22_XO_ISO_2, P3 XO_WCN, R2 XO_NFC, R3 XO_SOC, T1 XO_CEL, T2 XO_EXT
part F pins: F2 AVSS18_AUD, F3 AU_LOLN, F4 AU_LOLP, G2 AVDD18_AUD, G3 AU_HPR, G5 AU_HSN, G6 AU_HSP, H3 AU_REFN, H5 AVSS28_AUD, J1 HP_EINT, J2 AU_HPL, J4 AU_VIN2_P, J5 AU_VIN2_N, K1 AVDD28_AUD, K3 AU_VIN0_P, K4 AU_VIN0_N, K5 AU_VIN1_P, L3 AU_MICBIAS0, L5 AU_VIN1_N, M3 AU_MICBIAS1, M4 ACCDET, M14 AUD_SYNC_MOSI, N14 AUD_DAT_MOSI1, P15 AUD_DAT_MOSI0, P16 AUD_CLK_MOSI, R16 AUD_CLK_MISO, R17 AUD_DAT_MISO1, T16 AUD_SYNC_MISO, T17 AUD_DAT_MISO0
part G pins: D6 D_GND_1, D7 D_GND_2, D8 D_GND_3, D9 D_GND_4, D10 D_GND_5, D11 D_GND_6, D12 D_GND_7, D13 D_GND_8, E6 D_GND_9, E7 D_GND_10, E8 D_GND_11, E9 D_GND_12, E10 D_GND_13, E11 D_GND_14, E12 D_GND_15, F5 D_GND_16, F6 D_GND_17, F7 D_GND_18, F8 D_GND_19, F9 D_GND_20, F10 D_GND_21, F11 D_GND_22, F12 D_GND_23, F13 D_GND_24, G7 D_GND_25, G8 D_GND_26, G9 D_GND_27, G10 D_GND_28, G11 D_GND_29, G12 D_GND_30, H6 D_GND_31, H7 D_GND_32, H8 D_GND_33, H9 D_GND_34, H10 D_GND_35, H11 D_GND_36, H12 D_GND_37, J6 D_GND_38, J7 D_GND_39, J8 D_GND_40, J9 D_GND_41, J11 D_GND_42, K12 D_GND_43
part H pins: A2 VSYS_VPA_1, A3 VSYS_VPA_2, A4 VSYS_VPROC_1, A5 GND_VPROC_1, A8 VSYS_VCORE_1, A12 GND_VMODEM_1, A13 VSYS_VMODEM_1, A14 VSYS_VS1_1, A15 GND_VS1_1, B1 GND_SMPS, B2 VSYS_SMPS, B3 GND_VPA, B4 VSYS_VPROC_2, B5 GND_VPROC_2, B8 VSYS_VCORE_2, B9 GND_VCORE_1, B12 GND_VMODEM_2, B13 VSYS_VMODEM_2, B14 VSYS_VS1_2, B15 GND_VS1_2, C4 VSYS_VPROC_3, C5 GND_VPROC_3, C8 VSYS_VCORE_3, C9 GND_VCORE_2, C12 GND_VMODEM_3, D2 GND_VPROC_FB, D14 GND_VMODEM_FB, E3 GND_VCORE_FB, G14 VSYS_LDO1, K7 VSYS_LDO3, N17 VSYS_LDO2, T13 GND_VREF

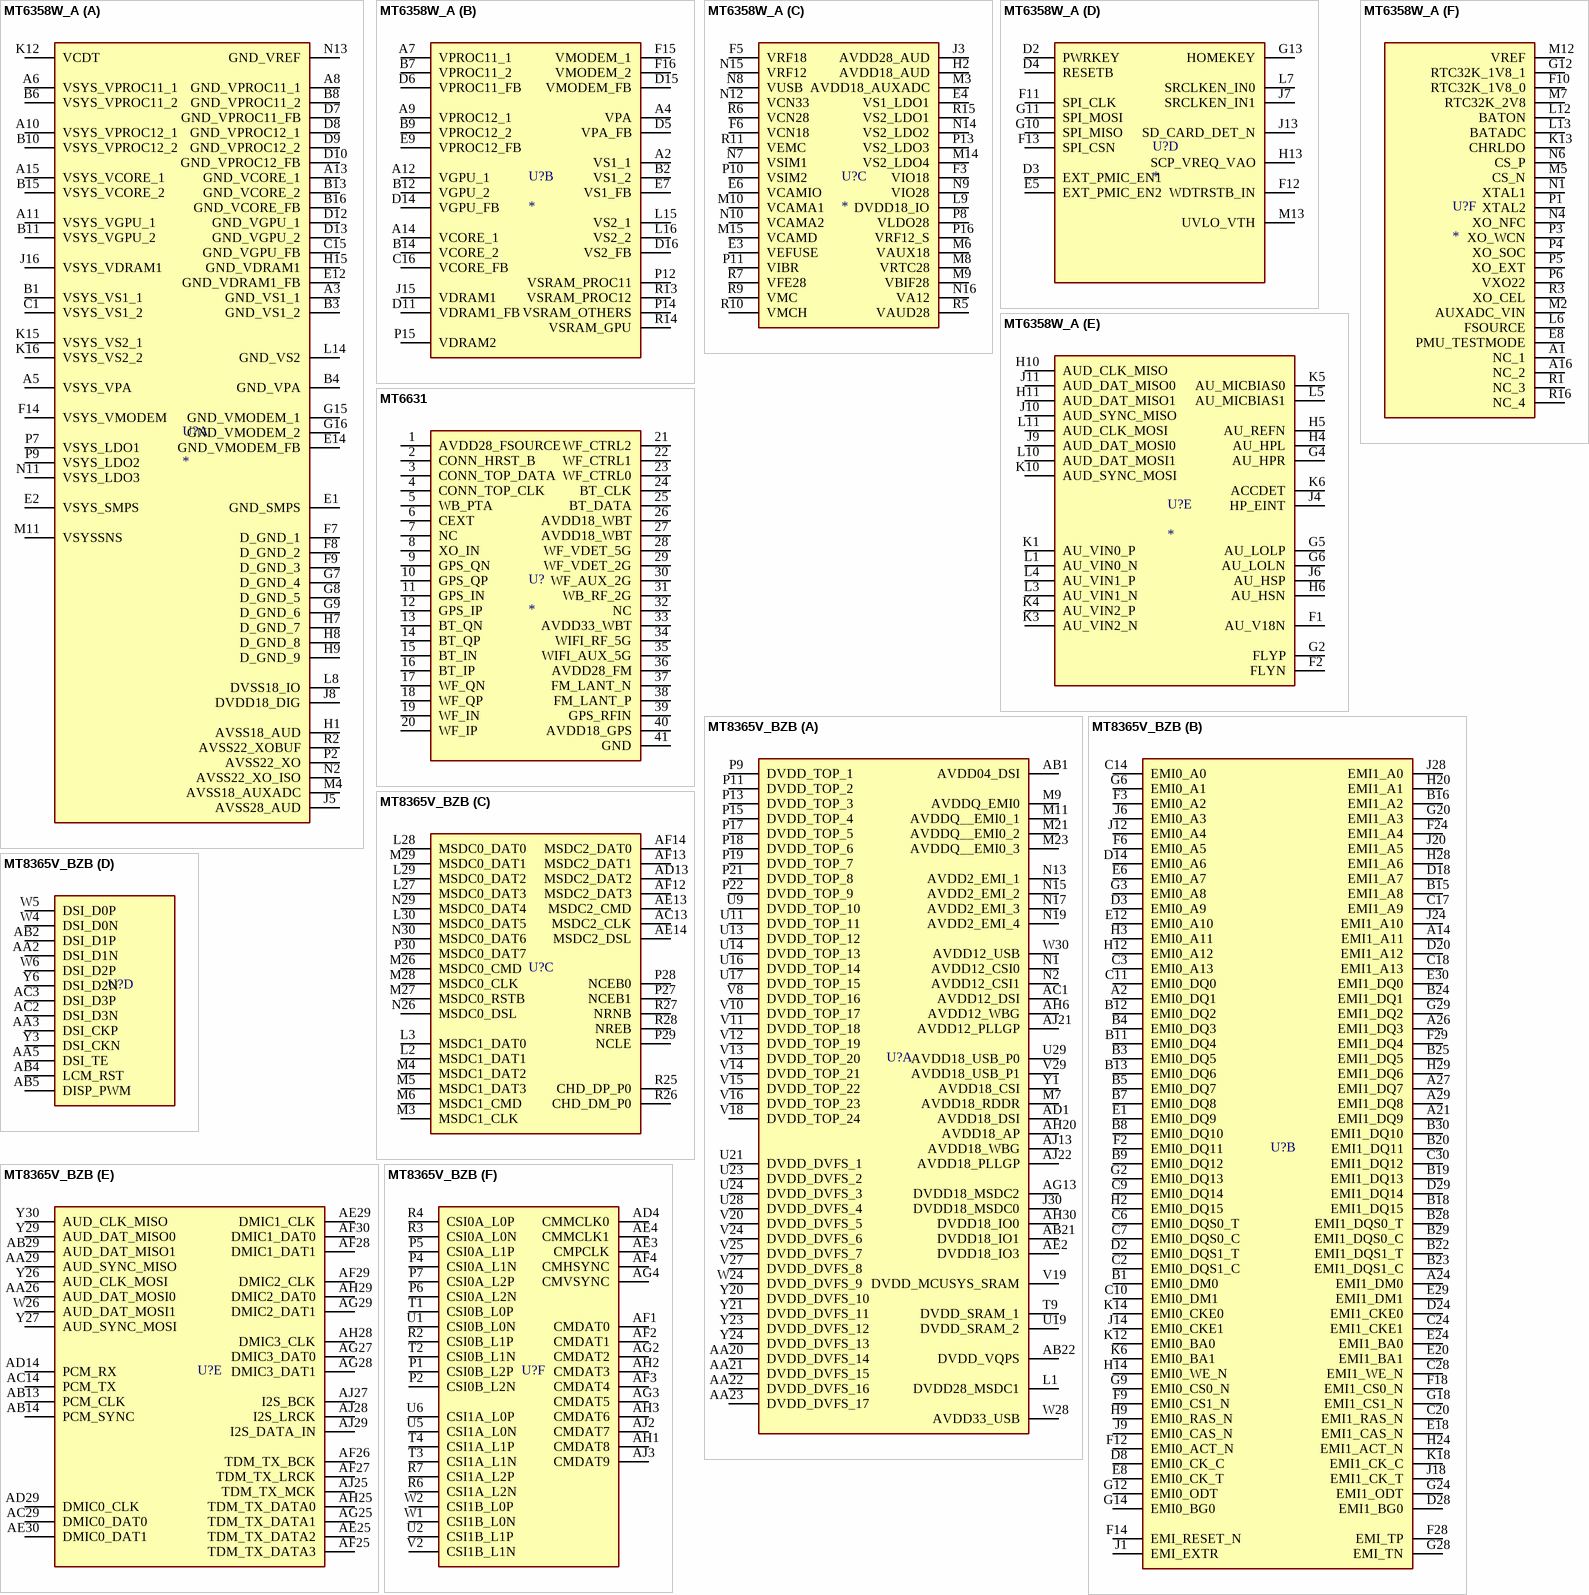
[diagram p3: symbols MT6358W_A to MT8365V_BZB]

## MT6358W_A
designator U?
PMIC; Manufacturer_Name: Mediatek; Manufacturer_Part_Number: MT6358W/A; Datasheet Link: https://www.mouser.com/catalog/specsheets/MediaTek_MTK_MT6358_Product_Brief_v1_0.pdf?_gl=1*14yevt7*_ga*OTAyMjU2NDU3LjE2ODExMDUyMzk.*_ga_1KQLCYKRX3*MTcwODA1NjU3MS4xMTcuMC4xNzA4MDU2NTczLjAuMC4w*_ga_15W4STQT4T*MTcwODA1NjU3Mi4xNzIuMC4xNzA4MDU2NTczLjU5LjAuMA..; Height: 0.66mm; Mouser Part Number: 840-MT6358W/A; Mouser Price/Stock: https://www.mouser.co.uk/ProductDetail/MediaTek/MT6358W-A?qs=Jm2GQyTW%2FbiK3FZkyfX0lQ%3D%3D
footprint BGA194C40P16X15_640X600X66
part A pins: A3 GND_VS1_1, A5 VSYS_VPA, A6 VSYS_VPROC11_1, A8 GND_VPROC11_1, A10 VSYS_VPROC12_1, A11 VSYS_VGPU_1, A13 GND_VCORE_1, A15 VSYS_VCORE_1, B1 VSYS_VS1_1, B3 GND_VS1_2, B4 GND_VPA, B6 VSYS_VPROC11_2, B8 GND_VPROC11_2, B10 VSYS_VPROC12_2, B11 VSYS_VGPU_2, B13 GND_VCORE_2, B15 VSYS_VCORE_2, B16 GND_VCORE_FB, C1 VSYS_VS1_2, C15 GND_VGPU_FB, D7 GND_VPROC11_FB, D8 GND_VPROC12_1, D9 GND_VPROC12_2, D10 GND_VPROC12_FB, D12 GND_VGPU_1, D13 GND_VGPU_2, E1 GND_SMPS, E2 VSYS_SMPS, E12 GND_VDRAM1_FB, E14 GND_VMODEM_FB, F7 D_GND_1, F8 D_GND_2, F9 D_GND_3, F14 VSYS_VMODEM, G7 D_GND_4, G8 D_GND_5, G9 D_GND_6, G15 GND_VMODEM_1, G16 GND_VMODEM_2, H1 AVSS18_AUD, H7 D_GND_7, H8 D_GND_8, H9 D_GND_9, H15 GND_VDRAM1, J5 AVSS28_AUD, J8 DVDD18_DIG, J16 VSYS_VDRAM1, K12 VCDT, K15 VSYS_VS2_1, K16 VSYS_VS2_2, L8 DVSS18_IO, L14 GND_VS2, M4 AVSS18_AUXADC, M11 VSYSSNS, N2 AVSS22_XO_ISO, N11 VSYS_LDO3, N13 GND_VREF, P2 AVSS22_XO, P7 VSYS_LDO1, P9 VSYS_LDO2, R2 AVSS22_XOBUF
part B pins: A2 VS1_1, A4 VPA, A7 VPROC11_1, A9 VPROC12_1, A12 VGPU_1, A14 VCORE_1, B2 VS1_2, B7 VPROC11_2, B9 VPROC12_2, B12 VGPU_2, B14 VCORE_2, C16 VCORE_FB, D5 VPA_FB, D6 VPROC11_FB, D11 VDRAM1_FB, D14 VGPU_FB, D15 VMODEM_FB, D16 VS2_FB, E7 VS1_FB, E9 VPROC12_FB, F15 VMODEM_1, F16 VMODEM_2, J15 VDRAM1, L15 VS2_1, L16 VS2_2, P12 VSRAM_PROC11, P14 VSRAM_OTHERS, P15 VDRAM2, R13 VSRAM_PROC12, R14 VSRAM_GPU
part C pins: E3 VEFUSE, E4 VS1_LDO1, E6 VCAMIO, F3 VIO18, F5 VRF18, F6 VCN18, H2 AVDD18_AUD, J3 AVDD28_AUD, L9 DVDD18_IO, M3 AVDD18_AUXADC, M6 VAUX18, M8 VRTC28, M9 VBIF28, M10 VCAMA1, M14 VS2_LDO4, M15 VCAMD, N7 VSIM1, N8 VUSB, N9 VIO28, N10 VCAMA2, N12 VCN33, N14 VS2_LDO2, N15 VRF12, N16 VA12, P8 VLDO28, P10 VSIM2, P11 VIBR, P13 VS2_LDO3, P16 VRF12_S, R5 VAUD28, R6 VCN28, R7 VFE28, R9 VMC, R10 VMCH, R11 VEMC, R15 VS2_LDO1
part D pins: D2 PWRKEY, D3 EXT_PMIC_EN1, D4 RESETB, E5 EXT_PMIC_EN2, F11 SPI_CLK, F12 WDTRSTB_IN, F13 SPI_CSN, G10 SPI_MISO, G11 SPI_MOSI, G13 HOMEKEY, H13 SCP_VREQ_VAO, J7 SRCLKEN_IN1, J13 SD_CARD_DET_N, L7 SRCLKEN_IN0, M13 UVLO_VTH
part E pins: F1 AU_V18N, F2 FLYN, G2 FLYP, G4 AU_HPR, G5 AU_LOLP, G6 AU_LOLN, H4 AU_HPL, H5 AU_REFN, H6 AU_HSN, H10 AUD_CLK_MISO, H11 AUD_DAT_MISO1, J4 HP_EINT, J6 AU_HSP, J9 AUD_DAT_MOSI0, J10 AUD_SYNC_MISO, J11 AUD_DAT_MISO0, K1 AU_VIN0_P, K3 AU_VIN2_N, K4 AU_VIN2_P, K5 AU_MICBIAS0, K6 ACCDET, K10 AUD_SYNC_MOSI, L1 AU_VIN0_N, L3 AU_VIN1_N, L4 AU_VIN1_P, L5 AU_MICBIAS1, L10 AUD_DAT_MOSI1, L11 AUD_CLK_MOSI
part F pins: A1 NC_1, A16 NC_2, E8 PMU_TESTMODE, F10 RTC32K_1V8_0, G12 RTC32K_1V8_1, K13 CHRLDO, L6 FSOURCE, L12 BATON, L13 BATADC, M2 AUXADC_VIN, M5 CS_N, M7 RTC32K_2V8, M12 VREF, N1 XTAL1, N4 XO_NFC, N6 CS_P, P1 XTAL2, P3 XO_WCN, P4 XO_SOC, P5 XO_EXT, P6 VXO22, R1 NC_3, R3 XO_CEL, R16 NC_4

## MT6631
designator U?
wifi, blu, GPS, radio
footprint MT6631
pins: 1 AVDD28_FSOURCE, 2 CONN_HRST_B, 3 CONN_TOP_DATA, 4 CONN_TOP_CLK, 5 WB_PTA, 6 CEXT, 7 NC, 8 XO_IN, 9 GPS_QN, 10 GPS_QP, 11 GPS_IN, 12 GPS_IP, 13 BT_QN, 14 BT_QP, 15 BT_IN, 16 BT_IP, 17 WF_QN, 18 WF_QP, 19 WF_IN, 20 WF_IP, 21 WF_CTRL2, 22 WF_CTRL1, 23 WF_CTRL0, 24 BT_CLK, 25 BT_DATA, 26 AVDD18_WBT, 27 AVDD18_WBT, 28 WF_VDET_5G, 29 WF_VDET_2G, 30 WF_AUX_2G, 31 WB_RF_2G, 32 NC, 33 AVDD33_WBT, 34 WIFI_RF_5G, 35 WIFI_AUX_5G, 36 AVDD28_FM, 37 FM_LANT_N, 38 FM_LANT_P, 39 GPS_RFIN, 40 AVDD18_GPS, 41 GND

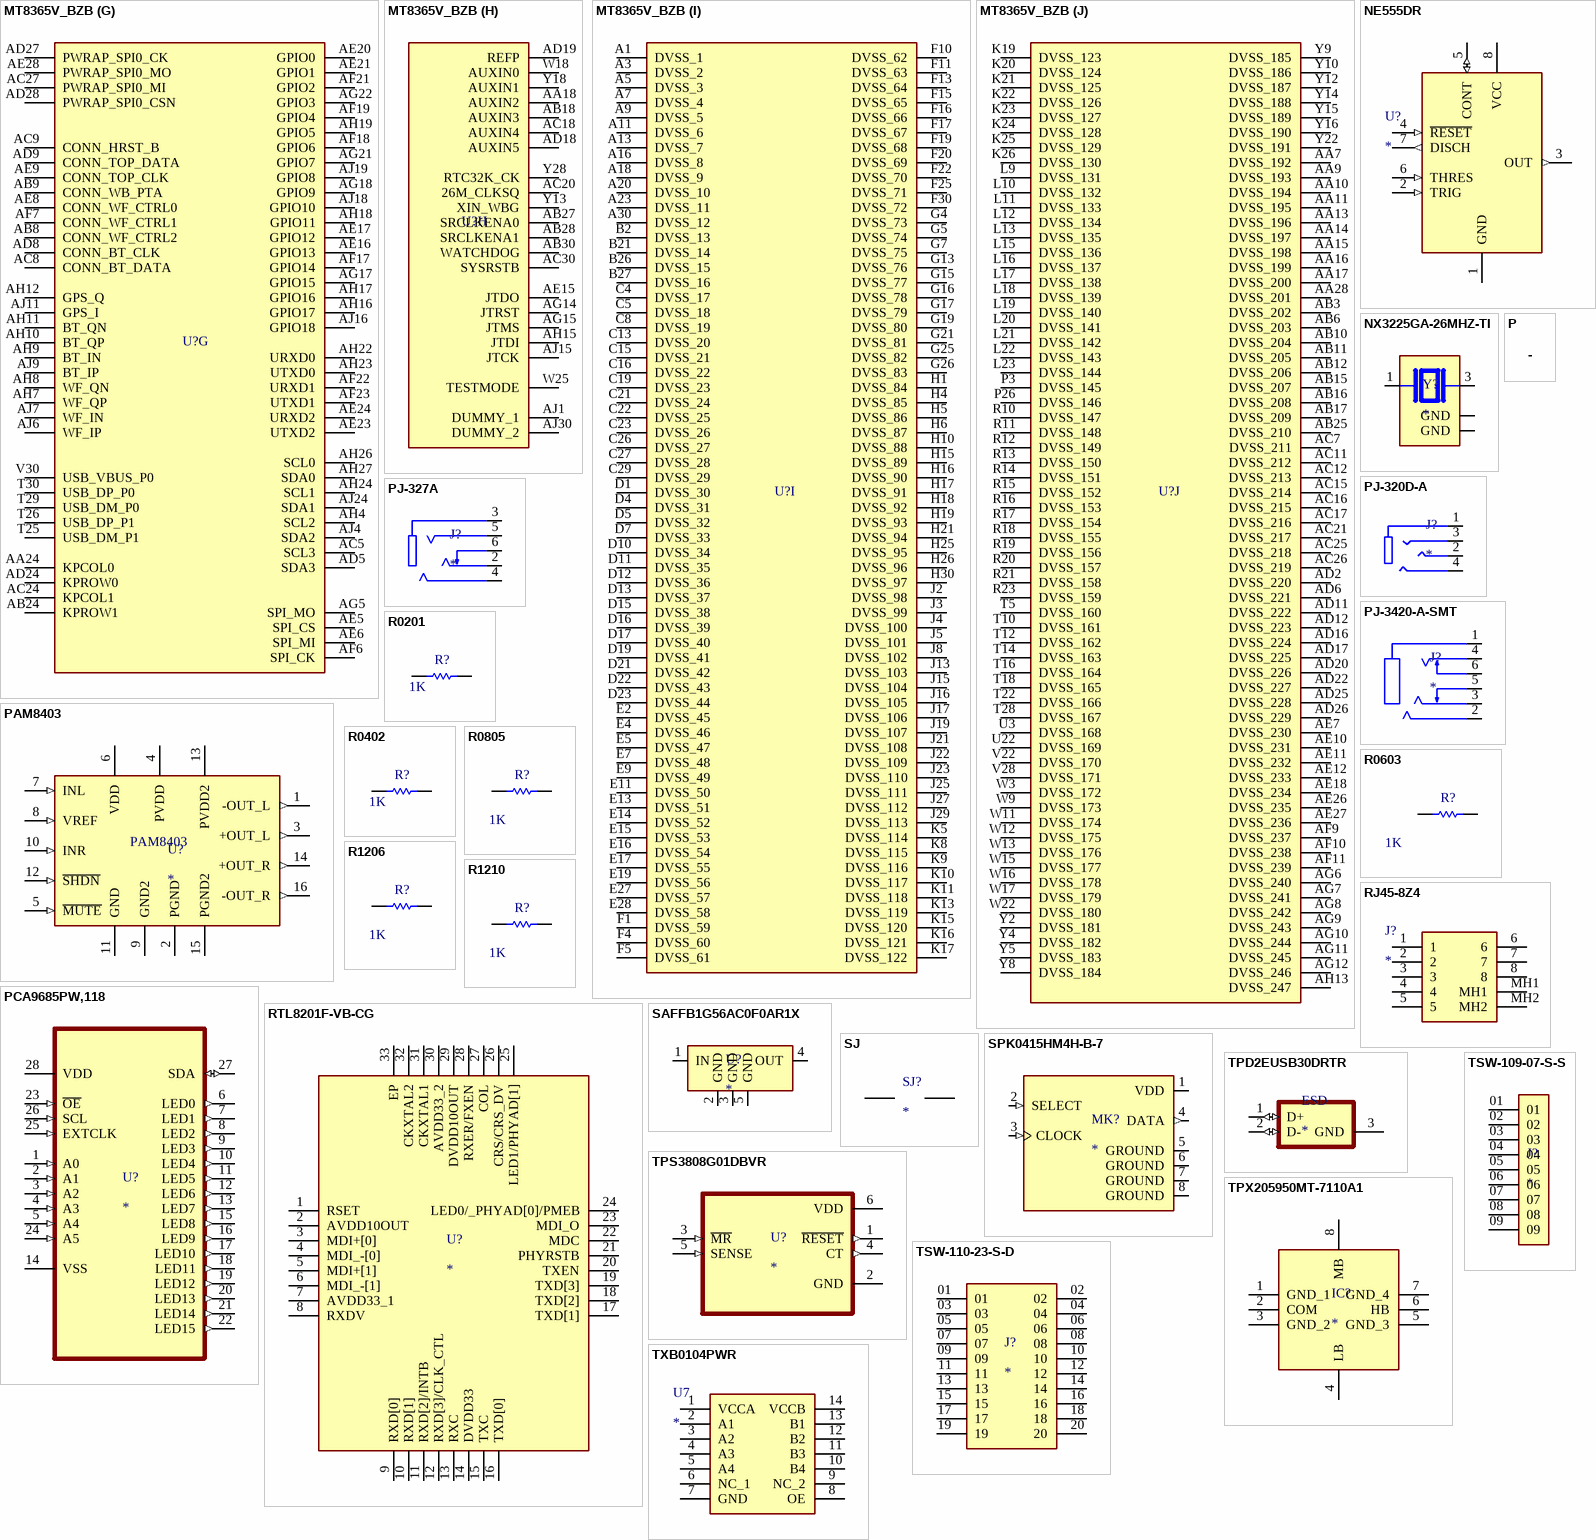
[diagram p4: symbols MT8365V_BZB to TXB0104PWR]

## MT8365V_BZB
designator U?
SoC; Manufacturer_Name: Mediatek; Manufacturer_Part_Number: MT8365V/BZB; Datasheet Link: https://www.mouser.co.uk/datasheet/2/1074/MT8365_AIoT_Application_Processor_Datasheet_v1_0_2-3106631.pdf; Height: 0.9mm; Mouser Part Number: 840-MT8365V/BZB; Mouser Price/Stock: https://www.mouser.co.uk/ProductDetail/MediaTek/MT8365V-BZB?qs=Jm2GQyTW%2FbjcedX9ugwNWQ%3D%3D
footprint BGA633C40P30X29_1220X1180X90
part A pins: AA20 DVDD_DVFS_14, AA21 DVDD_DVFS_15, AA22 DVDD_DVFS_16, AA23 DVDD_DVFS_17, AB1 AVDD04_DSI, AB21 DVDD18_IO1, AB22 DVDD_VQPS, AC1 AVDD12_DSI, AD1 AVDD18_DSI, AE2 DVDD18_IO3, AG13 DVDD18_MSDC2, AH6 AVDD12_WBG, AH20 AVDD18_AP, AH30 DVDD18_IO0, AJ13 AVDD18_WBG, AJ21 AVDD12_PLLGP, AJ22 AVDD18_PLLGP, J30 DVDD18_MSDC0, L1 DVDD28_MSDC1, M7 AVDD18_RDDR, M9 AVDDQ_EMI0, M11 AVDDQ__EMI0_1, M21 AVDDQ__EMI0_2, M23 AVDDQ__EMI0_3, N1 AVDD12_CSI0, N2 AVDD12_CSI1, N13 AVDD2_EMI_1, N15 AVDD2_EMI_2, N17 AVDD2_EMI_3, N19 AVDD2_EMI_4, P9 DVDD_TOP_1, P11 DVDD_TOP_2, P13 DVDD_TOP_3, P15 DVDD_TOP_4, P17 DVDD_TOP_5, P18 DVDD_TOP_6, P19 DVDD_TOP_7, P21 DVDD_TOP_8, P22 DVDD_TOP_9, T9 DVDD_SRAM_1, U9 DVDD_TOP_10, U11 DVDD_TOP_11, U13 DVDD_TOP_12, U14 DVDD_TOP_13, U16 DVDD_TOP_14, U17 DVDD_TOP_15, U19 DVDD_SRAM_2, U21 DVDD_DVFS_1, U23 DVDD_DVFS_2, U24 DVDD_DVFS_3, U28 DVDD_DVFS_4, U29 AVDD18_USB_P0, V8 DVDD_TOP_16, V10 DVDD_TOP_17, V11 DVDD_TOP_18, V12 DVDD_TOP_19, V13 DVDD_TOP_20, V14 DVDD_TOP_21, V15 DVDD_TOP_22, V16 DVDD_TOP_23, V18 DVDD_TOP_24, V19 DVDD_MCUSYS_SRAM, V20 DVDD_DVFS_5, V24 DVDD_DVFS_6, V25 DVDD_DVFS_7, V27 DVDD_DVFS_8, V29 AVDD18_USB_P1, W24 DVDD_DVFS_9, W28 AVDD33_USB, W30 AVDD12_USB, Y1 AVDD18_CSI, Y20 DVDD_DVFS_10, Y21 DVDD_DVFS_11, Y23 DVDD_DVFS_12, Y24 DVDD_DVFS_13
part B pins: A2 EMI0_DQ1, A14 EMI1_A11, A21 EMI1_DQ9, A24 EMI1_DM0, A26 EMI1_DQ3, A27 EMI1_DQ7, A29 EMI1_DQ8, B1 EMI0_DM0, B3 EMI0_DQ5, B4 EMI0_DQ3, B5 EMI0_DQ7, B7 EMI0_DQ8, B8 EMI0_DQ10, B9 EMI0_DQ12, B11 EMI0_DQ4, B12 EMI0_DQ2, B13 EMI0_DQ6, B15 EMI1_A8, B16 EMI1_A2, B18 EMI1_DQ15, B19 EMI1_DQ13, B20 EMI1_DQ11, B22 EMI1_DQS1_T, B23 EMI1_DQS1_C, B24 EMI1_DQ1, B25 EMI1_DQ5, B28 EMI1_DQS0_T, B29 EMI1_DQS0_C, B30 EMI1_DQ10, C2 EMI0_DQS1_C, C3 EMI0_A13, C6 EMI0_DQS0_T, C7 EMI0_DQS0_C, C9 EMI0_DQ14, C10 EMI0_DM1, C11 EMI0_DQ0, C14 EMI0_A0, C17 EMI1_A9, C18 EMI1_A13, C20 EMI1_RAS_N, C24 EMI1_CKE1, C28 EMI1_WE_N, C30 EMI1_DQ12, D2 EMI0_DQS1_T, D3 EMI0_A9, D8 EMI0_CK_C, D14 EMI0_A6, D18 EMI1_A7, D20 EMI1_A12, D24 EMI1_CKE0, D28 EMI1_BG0, D29 EMI1_DQ14, E1 EMI0_DQ9, E6 EMI0_A7, E8 EMI0_CK_T, E12 EMI0_A10, E18 EMI1_CAS_N, E20 EMI1_BA1, E24 EMI1_BA0, E29 EMI1_DM1, E30 EMI1_DQ0, F2 EMI0_DQ11, F3 EMI0_A2, F6 EMI0_A5, F9 EMI0_CS1_N, F12 EMI0_ACT_N, F14 EMI_RESET_N, F18 EMI1_CS0_N, F24 EMI1_A4, F28 EMI_TP, F29 EMI1_DQ4, G2 EMI0_DQ13, G3 EMI0_A8, G6 EMI0_A1, G9 EMI0_CS0_N, G12 EMI0_ODT, G14 EMI0_BG0, G18 EMI1_CS1_N, G20 EMI1_A3, G24 EMI1_ODT, G28 EMI_TN, G29 EMI1_DQ2, H2 EMI0_DQ15, H3 EMI0_A11, H9 EMI0_RAS_N, H12 EMI0_A12, H14 EMI0_WE_N, H20 EMI1_A1, H24 EMI1_ACT_N, H28 EMI1_A6, H29 EMI1_DQ6, J1 EMI_EXTR, J6 EMI0_A3, J9 EMI0_CAS_N, J12 EMI0_A4, J14 EMI0_CKE1, J18 EMI1_CK_T, J20 EMI1_A5, J24 EMI1_A10, J28 EMI1_A0, K6 EMI0_BA1, K12 EMI0_BA0, K14 EMI0_CKE0, K18 EMI1_CK_C
part C pins: AC13 MSDC2_CLK, AD13 MSDC2_DAT2, AE13 MSDC2_CMD, AE14 MSDC2_DSL, AF12 MSDC2_DAT3, AF13 MSDC2_DAT1, AF14 MSDC2_DAT0, L2 MSDC1_DAT1, L3 MSDC1_DAT0, L27 MSDC0_DAT3, L28 MSDC0_DAT0, L29 MSDC0_DAT2, L30 MSDC0_DAT5, M3 MSDC1_CLK, M4 MSDC1_DAT2, M5 MSDC1_DAT3, M6 MSDC1_CMD, M26 MSDC0_CMD, M27 MSDC0_RSTB, M28 MSDC0_CLK, M29 MSDC0_DAT1, N26 MSDC0_DSL, N29 MSDC0_DAT4, N30 MSDC0_DAT6, P27 NCEB1, P28 NCEB0, P29 NCLE, P30 MSDC0_DAT7, R25 CHD_DP_P0, R26 CHD_DM_P0, R27 NRNB, R28 NREB
part D pins: AA2 DSI_D1N, AA3 DSI_CKP, AA5 DSI_TE, AB2 DSI_D1P, AB4 LCM_RST, AB5 DISP_PWM, AC2 DSI_D3N, AC3 DSI_D3P, W4 DSI_D0N, W5 DSI_D0P, W6 DSI_D2P, Y3 DSI_CKN, Y6 DSI_D2N
part E pins: AA26 AUD_DAT_MOSI0, AA29 AUD_SYNC_MISO, AB13 PCM_CLK, AB14 PCM_SYNC, AB29 AUD_DAT_MISO1, AC14 PCM_TX, AC29 DMIC0_DAT0, AD14 PCM_RX, AD29 DMIC0_CLK, AE25 TDM_TX_DATA2, AE29 DMIC1_CLK, AE30 DMIC0_DAT1, AF25 TDM_TX_DATA3, AF26 TDM_TX_BCK, AF27 TDM_TX_LRCK, AF28 DMIC1_DAT1, AF29 DMIC2_CLK, AF30 DMIC1_DAT0, AG25 TDM_TX_DATA1, AG27 DMIC3_DAT0, AG28 DMIC3_DAT1, AG29 DMIC2_DAT1, AH25 TDM_TX_DATA0, AH28 DMIC3_CLK, AH29 DMIC2_DAT0, AJ25 TDM_TX_MCK, AJ27 I2S_BCK, AJ28 I2S_LRCK, AJ29 I2S_DATA_IN, W26 AUD_DAT_MOSI1, Y26 AUD_CLK_MOSI, Y27 AUD_SYNC_MOSI, Y29 AUD_DAT_MISO0, Y30 AUD_CLK_MISO
part F pins: AD4 CMMCLK0, AE3 CMPCLK, AE4 CMMCLK1, AF1 CMDAT0, AF2 CMDAT1, AF3 CMDAT4, AF4 CMHSYNC, AG2 CMDAT2, AG3 CMDAT5, AG4 CMVSYNC, AH1 CMDAT8, AH2 CMDAT3, AH3 CMDAT6, AJ2 CMDAT7, AJ3 CMDAT9, P1 CSI0B_L2P, P2 CSI0B_L2N, P4 CSI0A_L1N, P5 CSI0A_L1P, P6 CSI0A_L2N, P7 CSI0A_L2P, R2 CSI0B_L1P, R3 CSI0A_L0N, R4 CSI0A_L0P, R6 CSI1A_L2N, R7 CSI1A_L2P, T1 CSI0B_L0P, T2 CSI0B_L1N, T3 CSI1A_L1N, T4 CSI1A_L1P, U1 CSI0B_L0N, U2 CSI1B_L1P, U5 CSI1A_L0N, U6 CSI1A_L0P, V2 CSI1B_L1N, W1 CSI1B_L0N, W2 CSI1B_L0P
part G pins: AA24 KPCOL0, AB8 CONN_WF_CTRL2, AB9 CONN_WB_PTA, AB24 KPROW1, AC5 SCL3, AC8 CONN_BT_DATA, AC9 CONN_HRST_B, AC24 KPCOL1, AC27 PWRAP_SPI0_MI, AD5 SDA3, AD8 CONN_BT_CLK, AD9 CONN_TOP_DATA, AD24 KPROW0, AD27 PWRAP_SPI0_CK, AD28 PWRAP_SPI0_CSN, AE5 SPI_CS, AE6 SPI_MI, AE8 CONN_WF_CTRL0, AE9 CONN_TOP_CLK, AE16 GPIO13, AE17 GPIO12, AE20 GPIO0, AE21 GPIO1, AE23 UTXD2, AE24 URXD2, AE28 PWRAP_SPI0_MO, AF6 SPI_CK, AF7 CONN_WF_CTRL1, AF17 GPIO14, AF18 GPIO6, AF19 GPIO4, AF21 GPIO2, AF22 URXD1, AF23 UTXD1, AG5 SPI_MO, AG17 GPIO15, AG18 GPIO9, AG21 GPIO7, AG22 GPIO3, AH4 SCL2, AH7 WF_QP, AH8 WF_QN, AH9 BT_IN, AH10 BT_QP, AH11 BT_QN, AH12 GPS_Q, AH16 GPIO17, AH17 GPIO16, AH18 GPIO11, AH19 GPIO5, AH22 URXD0, AH23 UTXD0, AH24 SCL1, AH26 SCL0, AH27 SDA0, AJ4 SDA2, AJ6 WF_IP, AJ7 WF_IN, AJ9 BT_IP, AJ11 GPS_I, AJ16 GPIO18, AJ18 GPIO10, AJ19 GPIO8, AJ24 SDA1, T25 USB_DM_P1, T26 USB_DP_P1, T29 USB_DM_P0, T30 USB_DP_P0, V30 USB_VBUS_P0
part H pins: AA18 AUXIN2, AB18 AUXIN3, AB27 SRCLKENA0, AB28 SRCLKENA1, AB30 WATCHDOG, AC18 AUXIN4, AC20 26M_CLKSQ, AC30 SYSRSTB, AD18 AUXIN5, AD19 REFP, AE15 JTDO, AG14 JTRST, AG15 JTMS, AH15 JTDI, AJ1 DUMMY_1, AJ15 JTCK, AJ30 DUMMY_2, W18 AUXIN0, W25 TESTMODE, Y13 XIN_WBG, Y18 AUXIN1, Y28 RTC32K_CK
part I pins: A1 DVSS_1, A3 DVSS_2, A5 DVSS_3, A7 DVSS_4, A9 DVSS_5, A11 DVSS_6, A13 DVSS_7, A16 DVSS_8, A18 DVSS_9, A20 DVSS_10, A23 DVSS_11, A30 DVSS_12, B2 DVSS_13, B21 DVSS_14, B26 DVSS_15, B27 DVSS_16, C4 DVSS_17, C5 DVSS_18, C8 DVSS_19, C13 DVSS_20, C15 DVSS_21, C16 DVSS_22, C19 DVSS_23, C21 DVSS_24, C22 DVSS_25, C23 DVSS_26, C26 DVSS_27, C27 DVSS_28, C29 DVSS_29, D1 DVSS_30, D4 DVSS_31, D5 DVSS_32, D7 DVSS_33, D10 DVSS_34, D11 DVSS_35, D12 DVSS_36, D13 DVSS_37, D15 DVSS_38, D16 DVSS_39, D17 DVSS_40, D19 DVSS_41, D21 DVSS_42, D22 DVSS_43, D23 DVSS_44, E2 DVSS_45, E4 DVSS_46, E5 DVSS_47, E7 DVSS_48, E9 DVSS_49, E11 DVSS_50, E13 DVSS_51, E14 DVSS_52, E15 DVSS_53, E16 DVSS_54, E17 DVSS_55, E19 DVSS_56, E27 DVSS_57, E28 DVSS_58, F1 DVSS_59, F4 DVSS_60, F5 DVSS_61, F10 DVSS_62, F11 DVSS_63, F13 DVSS_64, F15 DVSS_65, F16 DVSS_66, F17 DVSS_67, F19 DVSS_68, F20 DVSS_69, F22 DVSS_70, F25 DVSS_71, F30 DVSS_72, G4 DVSS_73, G5 DVSS_74, G7 DVSS_75, G13 DVSS_76, G15 DVSS_77, G16 DVSS_78, G17 DVSS_79, G19 DVSS_80, G21 DVSS_81, G25 DVSS_82, G26 DVSS_83, H1 DVSS_84, H4 DVSS_85, H5 DVSS_86, H6 DVSS_87, H10 DVSS_88, H15 DVSS_89, H16 DVSS_90, H17 DVSS_91, H18 DVSS_92, H19 DVSS_93, H21 DVSS_94, H25 DVSS_95, H26 DVSS_96, H30 DVSS_97, J2 DVSS_98, J3 DVSS_99, J4 DVSS_100, J5 DVSS_101, J8 DVSS_102, J13 DVSS_103, J15 DVSS_104, J16 DVSS_105, J17 DVSS_106, J19 DVSS_107, J21 DVSS_108, J22 DVSS_109, J23 DVSS_110, J25 DVSS_111, J27 DVSS_112, J29 DVSS_113, K5 DVSS_114, K8 DVSS_115, K9 DVSS_116, K10 DVSS_117, K11 DVSS_118, K13 DVSS_119, K15 DVSS_120, K16 DVSS_121, K17 DVSS_122
part J pins: AA7 DVSS_192, AA9 DVSS_193, AA10 DVSS_194, AA11 DVSS_195, AA13 DVSS_196, AA14 DVSS_197, AA15 DVSS_198, AA16 DVSS_199, AA17 DVSS_200, AA28 DVSS_201, AB3 DVSS_202, AB6 DVSS_203, AB10 DVSS_204, AB11 DVSS_205, AB12 DVSS_206, AB15 DVSS_207, AB16 DVSS_208, AB17 DVSS_209, AB25 DVSS_210, AC7 DVSS_211, AC11 DVSS_212, AC12 DVSS_213, AC15 DVSS_214, AC16 DVSS_215, AC17 DVSS_216, AC21 DVSS_217, AC25 DVSS_218, AC26 DVSS_219, AD2 DVSS_220, AD6 DVSS_221, AD11 DVSS_222, AD12 DVSS_223, AD16 DVSS_224, AD17 DVSS_225, AD20 DVSS_226, AD22 DVSS_227, AD25 DVSS_228, AD26 DVSS_229, AE7 DVSS_230, AE10 DVSS_231, AE11 DVSS_232, AE12 DVSS_233, AE18 DVSS_234, AE26 DVSS_235, AE27 DVSS_236, AF9 DVSS_237, AF10 DVSS_238, AF11 DVSS_239, AG6 DVSS_240, AG7 DVSS_241, AG8 DVSS_242, AG9 DVSS_243, AG10 DVSS_244, AG11 DVSS_245, AG12 DVSS_246, AH13 DVSS_247, K19 DVSS_123, K20 DVSS_124, K21 DVSS_125, K22 DVSS_126, K23 DVSS_127, K24 DVSS_128, K25 DVSS_129, K26 DVSS_130, L9 DVSS_131, L10 DVSS_132, L11 DVSS_133, L12 DVSS_134, L13 DVSS_135, L15 DVSS_136, L16 DVSS_137, L17 DVSS_138, L18 DVSS_139, L19 DVSS_140, L20 DVSS_141, L21 DVSS_142, L22 DVSS_143, L23 DVSS_144, P3 DVSS_145, P26 DVSS_146, R10 DVSS_147, R11 DVSS_148, R12 DVSS_149, R13 DVSS_150, R14 DVSS_151, R15 DVSS_152, R16 DVSS_153, R17 DVSS_154, R18 DVSS_155, R19 DVSS_156, R20 DVSS_157, R21 DVSS_158, R23 DVSS_159, T5 DVSS_160, T10 DVSS_161, T12 DVSS_162, T14 DVSS_163, T16 DVSS_164, T18 DVSS_165, T22 DVSS_166, T28 DVSS_167, U3 DVSS_168, U22 DVSS_169, V22 DVSS_170, V28 DVSS_171, W3 DVSS_172, W9 DVSS_173, W11 DVSS_174, W12 DVSS_175, W13 DVSS_176, W15 DVSS_177, W16 DVSS_178, W17 DVSS_179, W22 DVSS_180, Y2 DVSS_181, Y4 DVSS_182, Y5 DVSS_183, Y8 DVSS_184, Y9 DVSS_185, Y10 DVSS_186, Y12 DVSS_187, Y14 DVSS_188, Y15 DVSS_189, Y16 DVSS_190, Y22 DVSS_191

## NE555DR
designator U?
Integrated Circuit; Manufacturer_Name: Texas Instruments; Manufacturer_Part_Number: NE555DR; Datasheet Link: http://www.ti.com/lit/ds/symlink/ne555.pdf; Height: 1.75mm; Mouser Part Number: 595-NE555DR; Mouser Price/Stock: https://www.mouser.com/Search/Refine.aspx?Keyword=595-NE555DR; RS Part Number: 1218414; RS Price/Stock: http://uk.rs-online.com/web/p/products/1218414
footprint SOIC127P600X175-8N
pins: 1 GND (power), 2 TRIG (in), 3 OUT (out), 4 ~{RESET} (in), 5 CONT (io), 6 THRES (in), 7 DISCH (out), 8 VCC (power)

## NX3225GA-26MHZ-TI
designator Y?
thạch anh 26MHz, 8pF
footprint OSCCC320X250X90N
pins: 1, 2 GND (power), 3, 4 GND (power)

## P
designator .?  (value not drawn)
footprint P
pins: 1, 2

## PAM8403
designator U?
Audio Amp Speaker 2-CH Stereo 3.2W Class-D 16-Pin SOP T/R
footprint SOP-16
pins: 1 -OUT_L (out), 2 PGND (power), 3 +OUT_L (out), 4 PVDD (power), 5 ~{MUTE} (in), 6 VDD (power), 7 INL (in), 8 VREF (in), 9 GND2 (power), 10 INR (in), 11 GND (power), 12 ~{SHDN} (in), 13 PVDD2 (power), 14 +OUT_R (out), 15 PGND2 (power), 16 -OUT_R (out)

## PCA9685PW,118
designator U?
LED Driver IC 16 Output Linear - PWM Dimming 25mA 28-TSSOP
footprint SOP65P640X110-28N
pins: 1 A0 (in), 2 A1 (in), 3 A2 (in), 4 A3 (in), 5 A4 (in), 6 LED0 (out), 7 LED1 (out), 8 LED2 (out), 9 LED3 (out), 10 LED4 (out), 11 LED5 (out), 12 LED6 (out), 13 LED7 (out), 14 VSS, 15 LED8 (out), 16 LED9 (out), 17 LED10 (out), 18 LED11 (out), 19 LED12 (out), 20 LED13 (out), 21 LED14 (out), 22 LED15 (out), 23 ~{OE} (in), 24 A5 (in), 25 EXTCLK (in), 26 SCL (in), 27 SDA (io), 28 VDD (power)

## PJ-320D-A
designator J?
jack 3.5 tai nghe
footprint HRO_PJ-320D-A
pins: 1 SLEEVE, 2 TIP, 3 RING1, 4 RING2

## PJ-327A
designator J?
Connector; Manufacturer_Name: XKB Connectivity; Manufacturer_Part_Number: PJ-327A; Datasheet Link: https://datasheet.lcsc.com/szlcsc/1903151105_XKB-Enterprise-PJ-327A0-SMT_C381135.pdf; Height: 4.75mm
footprint PJ327A
pins: 2, 3 1, 4 5, 5 3, 6 4

## PJ-3420-A-SMT
designator J?
Connector; Manufacturer_Name: XKB Connectivity; Manufacturer_Part_Number: PJ-3420-A-SMT; Datasheet Link: http://www.helloxkb.com/public/images/pdf/PJ-3420-X-SMT.pdf; Height: 4.5mm
footprint PJ3420ASMT
pins: 1, 2 5, 3 2, 4 3, 5 4, 6 4

## R0201
designator R?  value 1K  (hidden comment: R0201)
footprint R0201
pins: 1, 2

## R0402
designator R?  value 1K  (hidden comment: R0402)
footprint R0402
pins: 1, 2

## R0603
designator R?  value 1K  (hidden comment: R0603)
footprint R0603
pins: 1, 2

## R0805
designator R?  value 1K  (hidden comment: R0805)
footprint R0805
pins: 1, 2

## R1206
designator R?  value 1K  (hidden comment: R1206)
footprint R1206
pins: 1, 2

## R1210
designator R?  value 1K  (hidden comment: R1210)
footprint R1210
pins: 1, 2

## RJ45-8Z4
designator J?
Connector; Manufacturer_Name: TE Connectivity; Manufacturer_Part_Number: RJ45-8Z4; Datasheet Link: https://media.digikey.com/pdf/Data%20Sheets/Tyco%20Electronics%20Corcom%20PDFs/Z_Series.pdf; Height: 13.08mm; Mouser Part Number: 592-RJ45-8Z4; Mouser Price/Stock: https://www.mouser.co.uk/ProductDetail/TE-Connectivity-Corcom/RJ45-8Z4?qs=7kimBNJHayDCs5Ci3ERF6w%3D%3D
footprint RJ458Z4
pins: 1, 2, 3, 4, 5, 6, 7, 8, MH1, MH2

## RTL8201F-VB-CG
designator U?
điều khiển kết nối mạng LAN; Manufacturer_Name: Realtek; Manufacturer_Part_Number: RTL8201F-VB-CG; Datasheet Link: https://pdf1.alldatasheet.com/datasheet-pdf/view/1132250/REALTEK/RTL8201F-VB-CG.html; Height: 1mm
footprint RTL8201F
pins: 1 RSET, 2 AVDD10OUT, 3 MDI+[0], 4 MDI_-[0], 5 MDI+[1], 6 MDI_-[1], 7 AVDD33_1, 8 RXDV, 9 RXD[0], 10 RXD[1], 11 RXD[2]/INTB, 12 RXD[3]/CLK_CTL, 13 RXC, 14 DVDD33, 15 TXC, 16 TXD[0], 17 TXD[1], 18 TXD[2], 19 TXD[3], 20 TXEN, 21 PHYRSTB, 22 MDC, 23 MDI_O, 24 LED0/_PHYAD[0]/PMEB, 25 LED1/PHYAD[1], 26 CRS/CRS_DV, 27 COL, 28 RXER/FXEN, 29 DVDD10OUT, 30 AVDD33_2, 31 CKXTAL1, 32 CKXTAL2, 33 EP

## SAFFB1G56AC0F0AR1X
designator U?
lọc thông giải GPS
footprint SAFFB1G56AC0F0AR1X (Footprint not found)
pins: 1 IN (power), 2 GND (power), 3 GND (power), 4 OUT (power), 5 GND (power)

## SJ
designator SJ?
Để hở. hàn 2 đầu lại nếu cần
footprint SJ2
pins: 1, 2

## SPK0415HM4H-B-7
designator MK?
100Hz ~ 10kHz Digital, PDM Microphone MEMS _Silicon_ 1.6V ~ 3.6V Omnidirectional _-26dB Â±3dB @ 94dB SPL_ Solder Pads
footprint MIC_SPK0415HM4H-B-7 (Footprint not found)
pins: 1 VDD (power), 2 SELECT (in), 3 CLOCK (in), 4 DATA (out), 5 GROUND (power), 6 GROUND (power), 7 GROUND (power), 8 GROUND (power)

## TPD2EUSB30DRTR
designator ESD
2-channel ESD solution for SuperSpeed USB 3.0 interface 3-SOT-9X3 -40 to 85
footprint SOTFL35P100X50-3N (Footprint not found)
pins: 1 D+ (io), 2 D- (io), 3 GND (power)

## TPS3808G01DBVR
designator U?
Low-quiescent current supervisor with programmable delay & manual reset
footprint SOT95P280X145-6N
pins: 1 ~{RESET} (out), 2 GND (power), 3 ~{MR} (in), 4 CT (out), 5 SENSE (in), 6 VDD (power)

## TPX205950MT-7110A1
designator IC?
wifi, bluetooth, GPS. 2.4GHz, 5GHz, 1.6GHz; Manufacturer_Name: TDK; Manufacturer_Part_Number: TPX205950MT-7110A1; Datasheet Link: https://product.tdk.com/system/files/dam/doc/product/rf/rf/triplexer/catalog/rf_tpx_tpx205950mt-7110a1_en.pdf; Height: 1mm; Mouser Part Number: 810-TPX20595MT7110A1; Mouser Price/Stock: https://www.mouser.co.uk/ProductDetail/TDK/TPX205950MT-7110A1?qs=Vpv2%252BhtnxQJqTIwP0boi4g%3D%3D
footprint TPX205950MT7110A1
pins: 1 GND_1, 2 COM, 3 GND_2, 4 LB, 5 GND_3, 6 HB, 7 GND_4, 8 MB

## TSW-109-07-S-S
designator J?
Connector Header Through Hole 9 position 0.100 (2.54mm)
footprint SAMTEC_TSW-109-07-S-S (Footprint not found)
pins: 01, 02, 03, 04, 05, 06, 07, 08, 09

## TSW-110-23-S-D
designator J?
TSW Series .100 Terminal Strip
footprint SAMTEC_TSW-110-23-S-D (Footprint not found)
pins: 01, 02, 03, 04, 05, 06, 07, 08, 09, 10, 11, 12, 13, 14, 15, 16, 17, 18, 19, 20

## TXB0104PWR
designator U7
chuyển mức tín hiệu, UART, SPI, GPIO; Manufacturer_Name: Texas Instruments; Manufacturer_Part_Number: TXB0104PWR; Datasheet Link: http://www.ti.com/lit/ds/symlink/txb0104.pdf; Height: 1.2mm; Mouser Part Number: 595-TXB0104PWR; Mouser Price/Stock: https://www.mouser.co.uk/ProductDetail/Texas-Instruments/TXB0104PWR?qs=oFXvjAmG9EjSF69GpMWq5w%3D%3D; Arrow Part Number: TXB0104PWR; Arrow Price/Stock: https://www.arrow.com/en/products/txb0104pwr/texas-instruments?region=nac
footprint SOP65P640X120-14N
pins: 1 VCCA, 2 A1, 3 A2, 4 A3, 5 A4, 6 NC_1, 7 GND, 8 OE, 9 NC_2, 10 B4, 11 B3, 12 B2, 13 B1, 14 VCCB

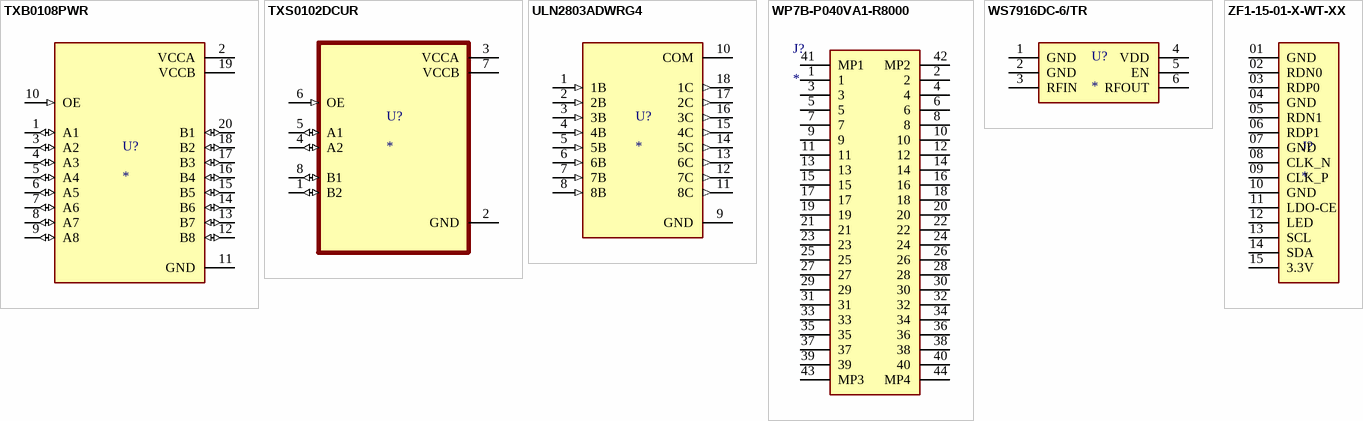
[diagram p5: symbols TXB0108PWR to ZF1-15-01-X-WT-XX]

## TXB0108PWR
designator U?
chuyển mức tín hiệu, UART, SPI, GPIO
footprint SOP65P640X120-20N (Footprint not found)
pins: 1 A1 (io), 2 VCCA (power), 3 A2 (io), 4 A3 (io), 5 A4 (io), 6 A5 (io), 7 A6 (io), 8 A7 (io), 9 A8 (io), 10 OE (in), 11 GND (power), 12 B8 (io), 13 B7 (io), 14 B6 (io), 15 B5 (io), 16 B4 (io), 17 B3 (io), 18 B2 (io), 19 VCCB (power), 20 B1 (io)

## TXS0102DCUR
designator U?
chuyển mức tín hiệu I2C
footprint SOP50P310X90-8N (Footprint not found)
pins: 1 B2 (io), 2 GND (power), 3 VCCA (power), 4 A2 (io), 5 A1 (io), 6 OE (in), 7 VCCB (power), 8 B1 (io)

## ULN2803ADWRG4
designator U?
50-V, 8-ch darlington array 18-SOIC -40 to 85
footprint SOIC127P1030X265-18N (Footprint not found)
pins: 1 1B (in), 2 2B (in), 3 3B (in), 4 4B (in), 5 5B (in), 6 6B (in), 7 7B (in), 8 8B (in), 9 GND (power), 10 COM (power), 11 8C (out), 12 7C (out), 13 6C (out), 14 5C (out), 15 4C (out), 16 3C (out), 17 2C (out), 18 1C (out)

## WP7B-P040VA1-R8000
designator J?
Connector; Manufacturer_Name: JAE; Manufacturer_Part_Number: WP7B-P040VA1-R8000; Datasheet Link: https://www.jae.com/en/connectors/series/detail/product/id=66869; Height: 0.65mm; Mouser Part Number: 656-WP7B-P040VA1-R8K; Mouser Price/Stock: https://www.mouser.co.uk/ProductDetail/JAE-Electronics/WP7B-P040VA1-R8000?qs=chTDxNqvsymfkoVlvYUryA%3D%3D
footprint WP7BP040VA1R8000
pins: 1, 2, 3, 4, 5, 6, 7, 8, 9, 10, 11, 12, 13, 14, 15, 16, 17, 18, 19, 20, 21, 22, 23, 24, 25, 26, 27, 28, 29, 30, 31, 32, 33, 34, 35, 36, 37, 38, 39, 40, 41 MP1, 42 MP2, 43 MP3, 44 MP4

## WS7916DC-6/TR
designator U?
khuếch đại tín hiệu GPS
footprint WS7916DC-6/TR
pins: 1 GND, 2 GND, 3 RFIN, 4 VDD, 5 EN, 6 RFOUT

## ZF1-15-01-X-WT-XX
designator J?
FFC. 15 pin
footprint SAMTEC_ZF1-15-01-X-WT-XX
pins: 01 GND, 02 RDN0, 03 RDP0, 04 GND, 05 RDN1, 06 RDP1, 07 GND, 08 CLK_N, 09 CLK_P, 10 GND, 11 LDO-CE, 12 LED, 13 SCL, 14 SDA, 15 3.3V